# Altium integrated library Lattice FPGA XP.IntLib: 280 symbols (part 23 of 45)
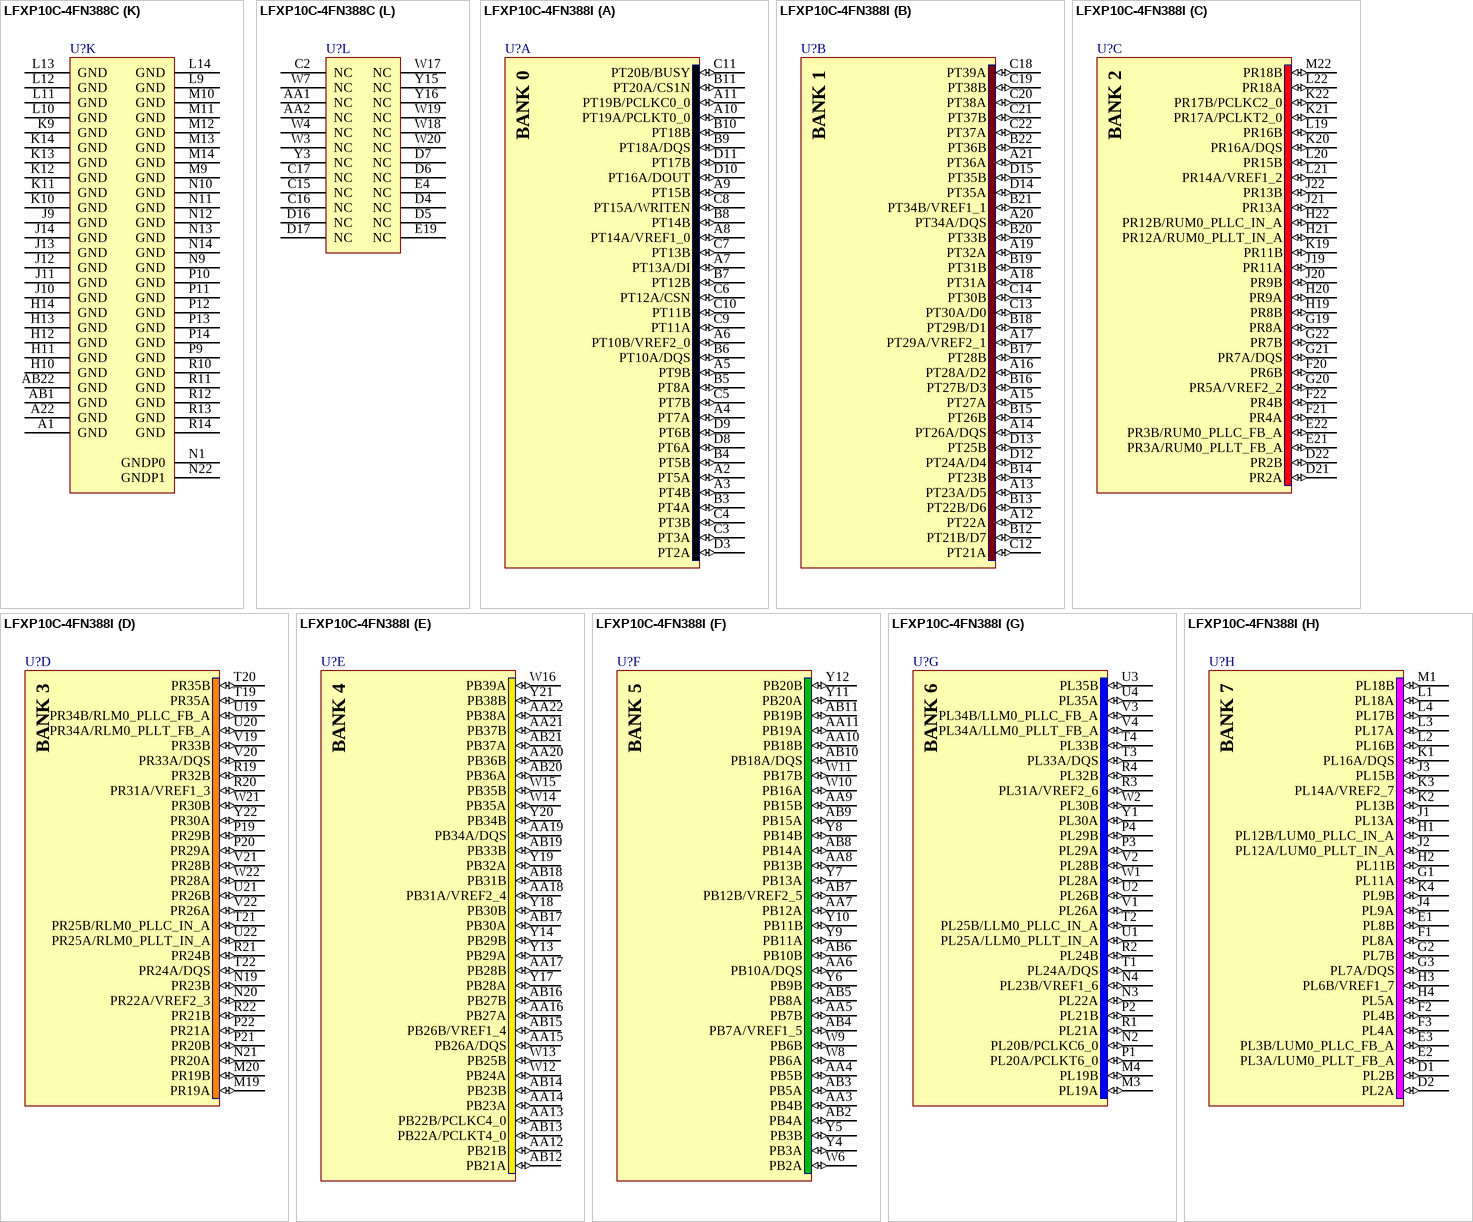
[diagram p263: symbols LFXP10C-4FN388C to LFXP10C-4FN388I]

## LFXP10C-4FN388C
designator U?
XP 1.8/2.5/3.3V FPGA, 244 I/Os, 10K LUTs, 388-Pin fpBGA, Speed Grade 4, Commerical Grade, Pb-Free; Published: 6-Oct-2005; LatestRevisionDate: 13-Apr-2006; LatestRevisionNote: IPC-7351 Footprint Added.; DatasheetVersion: ver05.1, Nov-2007; PackageVersion: ver01.8, Dec-2008; PackageReference: fpBGA388; Publisher: Altium Limited; PackageDescription: 388-Ball Fine Pitch Ball Grid Array (fpBGA388); ComponentLink1Description: Manufacturer Link; ComponentLink1URL: http://www.latticesemi.com/products/fpga/xp/index.cfm; ComponentLink2Description: Datasheet; ComponentLink2URL: http://www.latticesemi.com/lit/docs/datasheets/fpga/DS1001.pdf; ComponentLink3Description: Packaging Specification; ComponentLink3URL: http://www.latticesemi.com/lit/docs/package/pkg.pdf
footprint fpBGA388 (BGA, 388-Leads, Body 23x23mm, Pitch 1mm)
3D model XP10C-fpBGA-388 (388-Ball Fine Pitch Ball Grid Array (fpBGA388))
part A pins: A2 PT5A (io), A3 PT4B (io), A4 PT7A (io), A5 PT9B (io), A6 PT10B/VREF2_0 (io), A7 PT13A/DI (io), A8 PT14A/VREF1_0 (io), A9 PT15B (io), A10 PT19A/PCLKT0_0 (io), A11 PT19B/PCLKC0_0 (io), B3 PT4A (io), B4 PT5B (io), B5 PT8A (io), B6 PT10A/DQS (io), B7 PT12B (io), B8 PT14B (io), B9 PT18A/DQS (io), B10 PT18B (io), B11 PT20A/CS1N (io), C3 PT3A (io), C4 PT3B (io), C5 PT7B (io), C6 PT12A/CSN (io), C7 PT13B (io), C8 PT15A/WRITEN (io), C9 PT11A (io), C10 PT11B (io), C11 PT20B/BUSY (io), D3 PT2A (io), D8 PT6A (io), D9 PT6B (io), D10 PT16A/DOUT (io), D11 PT17B (io)
part B pins: A12 PT22A (io), A13 PT23A/D5 (io), A14 PT26A/DQS (io), A15 PT27A (io), A16 PT28A/D2 (io), A17 PT29A/VREF2_1 (io), A18 PT31A (io), A19 PT32A (io), A20 PT34A/DQS (io), A21 PT36A (io), B12 PT21B/D7 (io), B13 PT22B/D6 (io), B14 PT23B (io), B15 PT26B (io), B16 PT27B/D3 (io), B17 PT28B (io), B18 PT29B/D1 (io), B19 PT31B (io), B20 PT33B (io), B21 PT34B/VREF1_1 (io), B22 PT36B (io), C12 PT21A (io), C13 PT30A/D0 (io), C14 PT30B (io), C18 PT39A (io), C19 PT38B (io), C20 PT38A (io), C21 PT37B (io), C22 PT37A (io), D12 PT24A/D4 (io), D13 PT25B (io), D14 PT35A (io), D15 PT35B (io)
part C pins: D21 PR2A (io), D22 PR2B (io), E21 PR3A/RUM0_PLLT_FB_A (io), E22 PR3B/RUM0_PLLC_FB_A (io), F20 PR6B (io), F21 PR4A (io), F22 PR4B (io), G19 PR8A (io), G20 PR5A/VREF2_2 (io), G21 PR7A/DQS (io), G22 PR7B (io), H19 PR8B (io), H20 PR9A (io), H21 PR12A/RUM0_PLLT_IN_A (io), H22 PR12B/RUM0_PLLC_IN_A (io), J19 PR11A (io), J20 PR9B (io), J21 PR13A (io), J22 PR13B (io), K19 PR11B (io), K20 PR16A/DQS (io), K21 PR17A/PCLKT2_0 (io), K22 PR17B/PCLKC2_0 (io), L19 PR16B (io), L20 PR15B (io), L21 PR14A/VREF1_2 (io), L22 PR18A (io), M22 PR18B (io)
part D pins: M19 PR19A (io), M20 PR19B (io), N19 PR23B (io), N20 PR22A/VREF2_3 (io), N21 PR20A (io), P19 PR29B (io), P20 PR29A (io), P21 PR20B (io), P22 PR21A (io), R19 PR32B (io), R20 PR31A/VREF1_3 (io), R21 PR24B (io), R22 PR21B (io), T19 PR35A (io), T20 PR35B (io), T21 PR25B/RLM0_PLLC_IN_A (io), T22 PR24A/DQS (io), U19 PR34B/RLM0_PLLC_FB_A (io), U20 PR34A/RLM0_PLLT_FB_A (io), U21 PR26B (io), U22 PR25A/RLM0_PLLT_IN_A (io), V19 PR33B (io), V20 PR33A/DQS (io), V21 PR28B (io), V22 PR26A (io), W21 PR30B (io), W22 PR28A (io), Y22 PR30A (io)
part E pins: AA12 PB21B (io), AA13 PB22B/PCLKC4_0 (io), AA14 PB23A (io), AA15 PB26A/DQS (io), AA16 PB27A (io), AA17 PB28B (io), AA18 PB31A/VREF2_4 (io), AA19 PB34A/DQS (io), AA20 PB36B (io), AA21 PB37B (io), AA22 PB38A (io), AB12 PB21A (io), AB13 PB22A/PCLKT4_0 (io), AB14 PB23B (io), AB15 PB26B/VREF1_4 (io), AB16 PB27B (io), AB17 PB30A (io), AB18 PB31B (io), AB19 PB33B (io), AB20 PB36A (io), AB21 PB37A (io), W12 PB24A (io), W13 PB25B (io), W14 PB35A (io), W15 PB35B (io), W16 PB39A (io), Y13 PB29A (io), Y14 PB29B (io), Y17 PB28A (io), Y18 PB30B (io), Y19 PB32A (io), Y20 PB34B (io), Y21 PB38B (io)
part F pins: AA3 PB4B (io), AA4 PB5B (io), AA5 PB7B (io), AA6 PB10A/DQS (io), AA7 PB12A (io), AA8 PB13B (io), AA9 PB15B (io), AA10 PB18B (io), AA11 PB19A (io), AB2 PB4A (io), AB3 PB5A (io), AB4 PB7A/VREF1_5 (io), AB5 PB8A (io), AB6 PB10B (io), AB7 PB12B/VREF2_5 (io), AB8 PB14A (io), AB9 PB15A (io), AB10 PB18A/DQS (io), AB11 PB19B (io), W6 PB2A (io), W8 PB6A (io), W9 PB6B (io), W10 PB16A (io), W11 PB17B (io), Y4 PB3A (io), Y5 PB3B (io), Y6 PB9B (io), Y7 PB13A (io), Y8 PB14B (io), Y9 PB11A (io), Y10 PB11B (io), Y11 PB20A (io), Y12 PB20B (io)
part G pins: M3 PL19A (io), M4 PL19B (io), N2 PL20B/PCLKC6_0 (io), N3 PL22A (io), N4 PL23B/VREF1_6 (io), P1 PL20A/PCLKT6_0 (io), P2 PL21B (io), P3 PL29A (io), P4 PL29B (io), R1 PL21A (io), R2 PL24B (io), R3 PL31A/VREF2_6 (io), R4 PL32B (io), T1 PL24A/DQS (io), T2 PL25B/LLM0_PLLC_IN_A (io), T3 PL33A/DQS (io), T4 PL33B (io), U1 PL25A/LLM0_PLLT_IN_A (io), U2 PL26B (io), U3 PL35B (io), U4 PL35A (io), V1 PL26A (io), V2 PL28B (io), V3 PL34B/LLM0_PLLC_FB_A (io), V4 PL34A/LLM0_PLLT_FB_A (io), W1 PL28A (io), W2 PL30B (io), Y1 PL30A (io)
part H pins: D1 PL2B (io), D2 PL2A (io), E1 PL8B (io), E2 PL3A/LUM0_PLLT_FB_A (io), E3 PL3B/LUM0_PLLC_FB_A (io), F1 PL8A (io), F2 PL4B (io), F3 PL4A (io), G1 PL11A (io), G2 PL7B (io), G3 PL7A/DQS (io), H1 PL12B/LUM0_PLLC_IN_A (io), H2 PL11B (io), H3 PL6B/VREF1_7 (io), H4 PL5A (io), J1 PL13A (io), J2 PL12A/LUM0_PLLT_IN_A (io), J3 PL15B (io), J4 PL9A (io), K1 PL16A/DQS (io), K2 PL13B (io), K3 PL14A/VREF2_7 (io), K4 PL9B (io), L1 PL18A (io), L2 PL16B (io), L3 PL17A (io), L4 PL17B (io), M1 PL18B (io)
part I pins: B1 DONE (io), B2 CFG1 (in), C1 CFG0 (in), D18 TCK (in), D19 TMS (in), D20 TDI (in), F4 PROGRAMN (in), F19 TDO (out), G4 CCLK (io), W5 SLEEPN (in), Y2 INITN (io)
part J pins: E20 VCCJ (power), G7 VCCAUX (power), G8 VCCIO0 (power), G9 VCCIO0 (power), G10 VCCIO0 (power), G11 VCCIO0 (power), G12 VCCIO1 (power), G13 VCCIO1 (power), G14 VCCIO1 (power), G15 VCCIO1 (power), G16 VCCAUX (power), H7 VCCIO7 (power), H8 VCCIO0 (power), H9 VCC (power), H15 VCCIO1 (power), H16 VCCIO2 (power), J7 VCCIO7 (power), J8 VCC (power), J15 VCC (power), J16 VCCIO2 (power), K7 VCCIO7 (power), K8 VCC (power), K15 VCC (power), K16 VCCIO2 (power), L7 VCCIO7 (power), L8 VCC (power), L15 VCC (power), L16 VCCIO2 (power), M2 VCCP0 (power), M7 VCCIO6 (power), M8 VCC (power), M15 VCC (power), M16 VCCIO3 (power), M21 VCCP1 (power), N7 VCCIO6 (power), N8 VCC (power), N15 VCC (power), N16 VCCIO3 (power), P7 VCCIO6 (power), P8 VCC (power), P15 VCC (power), P16 VCCIO3 (power), R7 VCCIO6 (power), R8 VCCIO5 (power), R9 VCC (power), R15 VCCIO4 (power), R16 VCCIO3 (power), T7 VCCAUX (power), T8 VCCIO5 (power), T9 VCCIO5 (power), T10 VCCIO5 (power), T11 VCCIO5 (power), T12 VCCIO4 (power), T13 VCCIO4 (power), T14 VCCIO4 (power), T15 VCCIO4 (power), T16 VCCAUX (power)
part K pins: A1 GND (power), A22 GND (power), AB1 GND (power), AB22 GND (power), H10 GND (power), H11 GND (power), H12 GND (power), H13 GND (power), H14 GND (power), J9 GND (power), J10 GND (power), J11 GND (power), J12 GND (power), J13 GND (power), J14 GND (power), K9 GND (power), K10 GND (power), K11 GND (power), K12 GND (power), K13 GND (power), K14 GND (power), L9 GND (power), L10 GND (power), L11 GND (power), L12 GND (power), L13 GND (power), L14 GND (power), M9 GND (power), M10 GND (power), M11 GND (power), M12 GND (power), M13 GND (power), M14 GND (power), N1 GNDP0 (power), N9 GND (power), N10 GND (power), N11 GND (power), N12 GND (power), N13 GND (power), N14 GND (power), N22 GNDP1 (power), P9 GND (power), P10 GND (power), P11 GND (power), P12 GND (power), P13 GND (power), P14 GND (power), R10 GND (power), R11 GND (power), R12 GND (power), R13 GND (power), R14 GND (power)
part L pins: AA1 NC, AA2 NC, C2 NC, C15 NC, C16 NC, C17 NC, D4 NC, D5 NC, D6 NC, D7 NC, D16 NC, D17 NC, E4 NC, E19 NC, W3 NC, W4 NC, W7 NC, W17 NC, W18 NC, W19 NC, W20 NC, Y3 NC, Y15 NC, Y16 NC
part A text: BANK 0
part B text: BANK 1
part C text: BANK 2
part D text: BANK 3
part E text: BANK 4
part F text: BANK 5
part G text: BANK 6
part H text: BANK 7

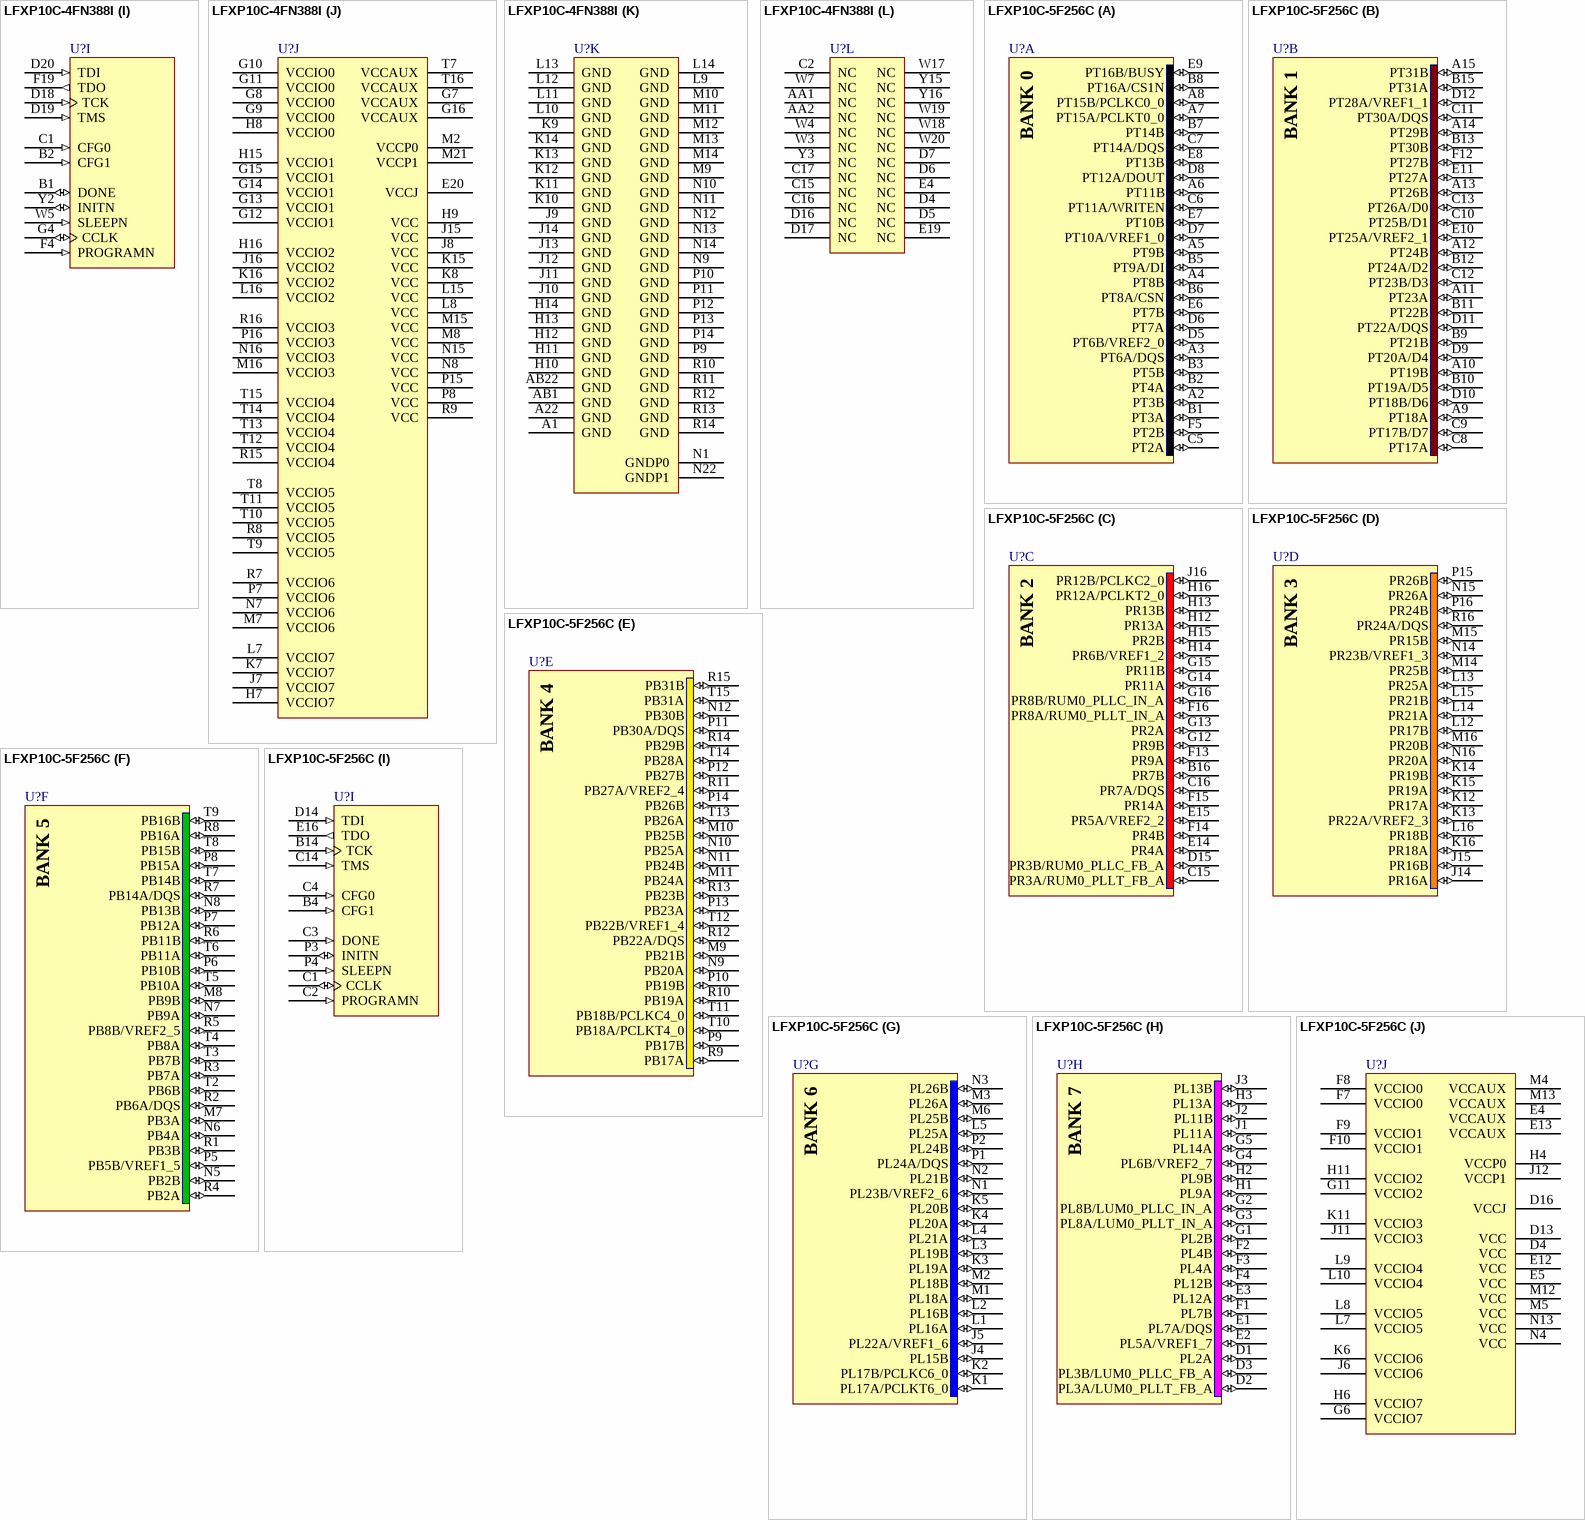
[diagram p88: symbols LFXP10C-4FN388I to LFXP10C-5F256C]

## LFXP10C-4FN388I
designator U?
XP 1.8/2.5/3.3V FPGA, 244 I/Os, 10K LUTs, 388-Pin fpBGA, Speed Grade 4, Industrial Grade, Pb-Free; Published: 6-Oct-2005; LatestRevisionDate: 13-Apr-2006; LatestRevisionNote: IPC-7351 Footprint Added.; DatasheetVersion: ver05.1, Nov-2007; PackageVersion: ver01.8, Dec-2008; PackageReference: fpBGA388; Publisher: Altium Limited; PackageDescription: 388-Ball Fine Pitch Ball Grid Array (fpBGA388); ComponentLink1Description: Manufacturer Link; ComponentLink1URL: http://www.latticesemi.com/products/fpga/xp/index.cfm; ComponentLink2Description: Datasheet; ComponentLink2URL: http://www.latticesemi.com/lit/docs/datasheets/fpga/DS1001.pdf; ComponentLink3Description: Packaging Specification; ComponentLink3URL: http://www.latticesemi.com/lit/docs/package/pkg.pdf
footprint fpBGA388 (BGA, 388-Leads, Body 23x23mm, Pitch 1mm)
3D model XP10C-fpBGA-388 (388-Ball Fine Pitch Ball Grid Array (fpBGA388))
part A pins: A2 PT5A (io), A3 PT4B (io), A4 PT7A (io), A5 PT9B (io), A6 PT10B/VREF2_0 (io), A7 PT13A/DI (io), A8 PT14A/VREF1_0 (io), A9 PT15B (io), A10 PT19A/PCLKT0_0 (io), A11 PT19B/PCLKC0_0 (io), B3 PT4A (io), B4 PT5B (io), B5 PT8A (io), B6 PT10A/DQS (io), B7 PT12B (io), B8 PT14B (io), B9 PT18A/DQS (io), B10 PT18B (io), B11 PT20A/CS1N (io), C3 PT3A (io), C4 PT3B (io), C5 PT7B (io), C6 PT12A/CSN (io), C7 PT13B (io), C8 PT15A/WRITEN (io), C9 PT11A (io), C10 PT11B (io), C11 PT20B/BUSY (io), D3 PT2A (io), D8 PT6A (io), D9 PT6B (io), D10 PT16A/DOUT (io), D11 PT17B (io)
part B pins: A12 PT22A (io), A13 PT23A/D5 (io), A14 PT26A/DQS (io), A15 PT27A (io), A16 PT28A/D2 (io), A17 PT29A/VREF2_1 (io), A18 PT31A (io), A19 PT32A (io), A20 PT34A/DQS (io), A21 PT36A (io), B12 PT21B/D7 (io), B13 PT22B/D6 (io), B14 PT23B (io), B15 PT26B (io), B16 PT27B/D3 (io), B17 PT28B (io), B18 PT29B/D1 (io), B19 PT31B (io), B20 PT33B (io), B21 PT34B/VREF1_1 (io), B22 PT36B (io), C12 PT21A (io), C13 PT30A/D0 (io), C14 PT30B (io), C18 PT39A (io), C19 PT38B (io), C20 PT38A (io), C21 PT37B (io), C22 PT37A (io), D12 PT24A/D4 (io), D13 PT25B (io), D14 PT35A (io), D15 PT35B (io)
part C pins: D21 PR2A (io), D22 PR2B (io), E21 PR3A/RUM0_PLLT_FB_A (io), E22 PR3B/RUM0_PLLC_FB_A (io), F20 PR6B (io), F21 PR4A (io), F22 PR4B (io), G19 PR8A (io), G20 PR5A/VREF2_2 (io), G21 PR7A/DQS (io), G22 PR7B (io), H19 PR8B (io), H20 PR9A (io), H21 PR12A/RUM0_PLLT_IN_A (io), H22 PR12B/RUM0_PLLC_IN_A (io), J19 PR11A (io), J20 PR9B (io), J21 PR13A (io), J22 PR13B (io), K19 PR11B (io), K20 PR16A/DQS (io), K21 PR17A/PCLKT2_0 (io), K22 PR17B/PCLKC2_0 (io), L19 PR16B (io), L20 PR15B (io), L21 PR14A/VREF1_2 (io), L22 PR18A (io), M22 PR18B (io)
part D pins: M19 PR19A (io), M20 PR19B (io), N19 PR23B (io), N20 PR22A/VREF2_3 (io), N21 PR20A (io), P19 PR29B (io), P20 PR29A (io), P21 PR20B (io), P22 PR21A (io), R19 PR32B (io), R20 PR31A/VREF1_3 (io), R21 PR24B (io), R22 PR21B (io), T19 PR35A (io), T20 PR35B (io), T21 PR25B/RLM0_PLLC_IN_A (io), T22 PR24A/DQS (io), U19 PR34B/RLM0_PLLC_FB_A (io), U20 PR34A/RLM0_PLLT_FB_A (io), U21 PR26B (io), U22 PR25A/RLM0_PLLT_IN_A (io), V19 PR33B (io), V20 PR33A/DQS (io), V21 PR28B (io), V22 PR26A (io), W21 PR30B (io), W22 PR28A (io), Y22 PR30A (io)
part E pins: AA12 PB21B (io), AA13 PB22B/PCLKC4_0 (io), AA14 PB23A (io), AA15 PB26A/DQS (io), AA16 PB27A (io), AA17 PB28B (io), AA18 PB31A/VREF2_4 (io), AA19 PB34A/DQS (io), AA20 PB36B (io), AA21 PB37B (io), AA22 PB38A (io), AB12 PB21A (io), AB13 PB22A/PCLKT4_0 (io), AB14 PB23B (io), AB15 PB26B/VREF1_4 (io), AB16 PB27B (io), AB17 PB30A (io), AB18 PB31B (io), AB19 PB33B (io), AB20 PB36A (io), AB21 PB37A (io), W12 PB24A (io), W13 PB25B (io), W14 PB35A (io), W15 PB35B (io), W16 PB39A (io), Y13 PB29A (io), Y14 PB29B (io), Y17 PB28A (io), Y18 PB30B (io), Y19 PB32A (io), Y20 PB34B (io), Y21 PB38B (io)
part F pins: AA3 PB4B (io), AA4 PB5B (io), AA5 PB7B (io), AA6 PB10A/DQS (io), AA7 PB12A (io), AA8 PB13B (io), AA9 PB15B (io), AA10 PB18B (io), AA11 PB19A (io), AB2 PB4A (io), AB3 PB5A (io), AB4 PB7A/VREF1_5 (io), AB5 PB8A (io), AB6 PB10B (io), AB7 PB12B/VREF2_5 (io), AB8 PB14A (io), AB9 PB15A (io), AB10 PB18A/DQS (io), AB11 PB19B (io), W6 PB2A (io), W8 PB6A (io), W9 PB6B (io), W10 PB16A (io), W11 PB17B (io), Y4 PB3A (io), Y5 PB3B (io), Y6 PB9B (io), Y7 PB13A (io), Y8 PB14B (io), Y9 PB11A (io), Y10 PB11B (io), Y11 PB20A (io), Y12 PB20B (io)
part G pins: M3 PL19A (io), M4 PL19B (io), N2 PL20B/PCLKC6_0 (io), N3 PL22A (io), N4 PL23B/VREF1_6 (io), P1 PL20A/PCLKT6_0 (io), P2 PL21B (io), P3 PL29A (io), P4 PL29B (io), R1 PL21A (io), R2 PL24B (io), R3 PL31A/VREF2_6 (io), R4 PL32B (io), T1 PL24A/DQS (io), T2 PL25B/LLM0_PLLC_IN_A (io), T3 PL33A/DQS (io), T4 PL33B (io), U1 PL25A/LLM0_PLLT_IN_A (io), U2 PL26B (io), U3 PL35B (io), U4 PL35A (io), V1 PL26A (io), V2 PL28B (io), V3 PL34B/LLM0_PLLC_FB_A (io), V4 PL34A/LLM0_PLLT_FB_A (io), W1 PL28A (io), W2 PL30B (io), Y1 PL30A (io)
part H pins: D1 PL2B (io), D2 PL2A (io), E1 PL8B (io), E2 PL3A/LUM0_PLLT_FB_A (io), E3 PL3B/LUM0_PLLC_FB_A (io), F1 PL8A (io), F2 PL4B (io), F3 PL4A (io), G1 PL11A (io), G2 PL7B (io), G3 PL7A/DQS (io), H1 PL12B/LUM0_PLLC_IN_A (io), H2 PL11B (io), H3 PL6B/VREF1_7 (io), H4 PL5A (io), J1 PL13A (io), J2 PL12A/LUM0_PLLT_IN_A (io), J3 PL15B (io), J4 PL9A (io), K1 PL16A/DQS (io), K2 PL13B (io), K3 PL14A/VREF2_7 (io), K4 PL9B (io), L1 PL18A (io), L2 PL16B (io), L3 PL17A (io), L4 PL17B (io), M1 PL18B (io)
part I pins: B1 DONE (io), B2 CFG1 (in), C1 CFG0 (in), D18 TCK (in), D19 TMS (in), D20 TDI (in), F4 PROGRAMN (in), F19 TDO (out), G4 CCLK (io), W5 SLEEPN (in), Y2 INITN (io)
part J pins: E20 VCCJ (power), G7 VCCAUX (power), G8 VCCIO0 (power), G9 VCCIO0 (power), G10 VCCIO0 (power), G11 VCCIO0 (power), G12 VCCIO1 (power), G13 VCCIO1 (power), G14 VCCIO1 (power), G15 VCCIO1 (power), G16 VCCAUX (power), H7 VCCIO7 (power), H8 VCCIO0 (power), H9 VCC (power), H15 VCCIO1 (power), H16 VCCIO2 (power), J7 VCCIO7 (power), J8 VCC (power), J15 VCC (power), J16 VCCIO2 (power), K7 VCCIO7 (power), K8 VCC (power), K15 VCC (power), K16 VCCIO2 (power), L7 VCCIO7 (power), L8 VCC (power), L15 VCC (power), L16 VCCIO2 (power), M2 VCCP0 (power), M7 VCCIO6 (power), M8 VCC (power), M15 VCC (power), M16 VCCIO3 (power), M21 VCCP1 (power), N7 VCCIO6 (power), N8 VCC (power), N15 VCC (power), N16 VCCIO3 (power), P7 VCCIO6 (power), P8 VCC (power), P15 VCC (power), P16 VCCIO3 (power), R7 VCCIO6 (power), R8 VCCIO5 (power), R9 VCC (power), R15 VCCIO4 (power), R16 VCCIO3 (power), T7 VCCAUX (power), T8 VCCIO5 (power), T9 VCCIO5 (power), T10 VCCIO5 (power), T11 VCCIO5 (power), T12 VCCIO4 (power), T13 VCCIO4 (power), T14 VCCIO4 (power), T15 VCCIO4 (power), T16 VCCAUX (power)
part K pins: A1 GND (power), A22 GND (power), AB1 GND (power), AB22 GND (power), H10 GND (power), H11 GND (power), H12 GND (power), H13 GND (power), H14 GND (power), J9 GND (power), J10 GND (power), J11 GND (power), J12 GND (power), J13 GND (power), J14 GND (power), K9 GND (power), K10 GND (power), K11 GND (power), K12 GND (power), K13 GND (power), K14 GND (power), L9 GND (power), L10 GND (power), L11 GND (power), L12 GND (power), L13 GND (power), L14 GND (power), M9 GND (power), M10 GND (power), M11 GND (power), M12 GND (power), M13 GND (power), M14 GND (power), N1 GNDP0 (power), N9 GND (power), N10 GND (power), N11 GND (power), N12 GND (power), N13 GND (power), N14 GND (power), N22 GNDP1 (power), P9 GND (power), P10 GND (power), P11 GND (power), P12 GND (power), P13 GND (power), P14 GND (power), R10 GND (power), R11 GND (power), R12 GND (power), R13 GND (power), R14 GND (power)
part L pins: AA1 NC, AA2 NC, C2 NC, C15 NC, C16 NC, C17 NC, D4 NC, D5 NC, D6 NC, D7 NC, D16 NC, D17 NC, E4 NC, E19 NC, W3 NC, W4 NC, W7 NC, W17 NC, W18 NC, W19 NC, W20 NC, Y3 NC, Y15 NC, Y16 NC
part A text: BANK 0
part B text: BANK 1
part C text: BANK 2
part D text: BANK 3
part E text: BANK 4
part F text: BANK 5
part G text: BANK 6
part H text: BANK 7

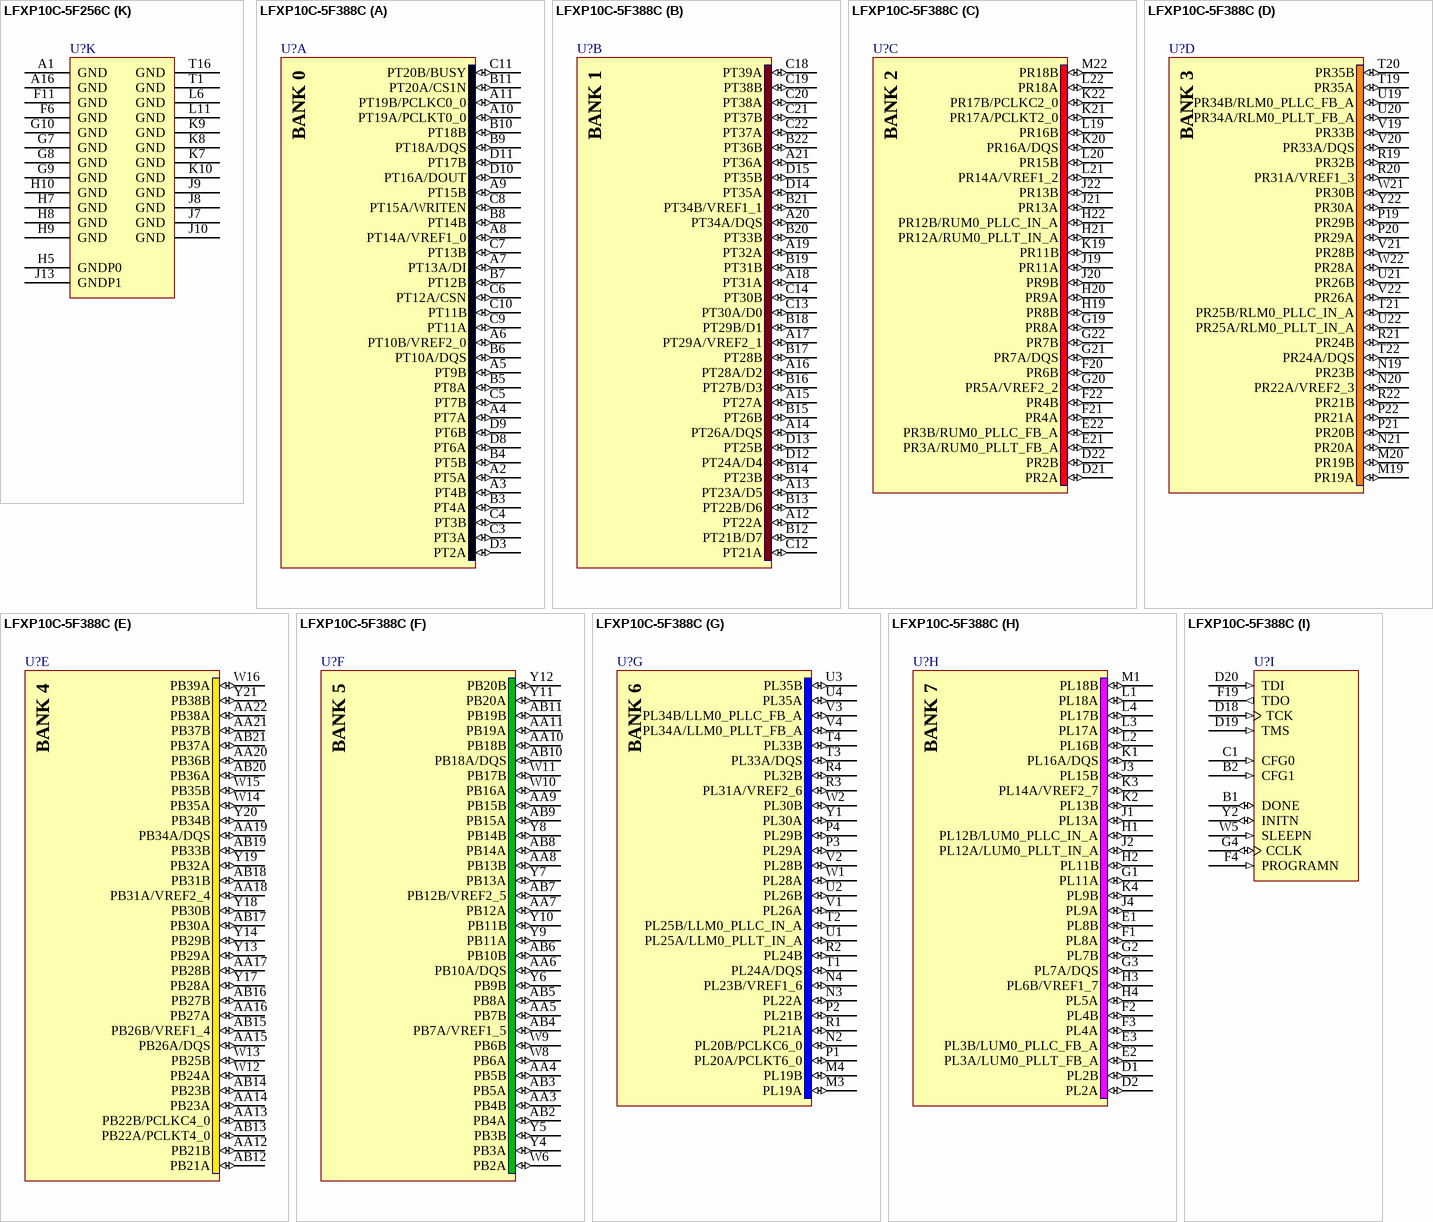
[diagram p89: symbols LFXP10C-5F256C to LFXP10C-5F388C]

## LFXP10C-5F256C
designator U?
XP 1.8/2.5/3.3V FPGA, 188 I/Os, 10K LUTs, 256-Pin fpBGA, Speed Grade 5, Commerical Grade; Published: 6-Oct-2005; LatestRevisionDate: 13-Apr-2006; LatestRevisionNote: IPC-7351 Footprint Added.; DatasheetVersion: ver05.1, Nov-2007; PackageVersion: ver01.8, Dec-2008; PackageReference: fpBGA256; Publisher: Altium Limited; PackageDescription: 256-Ball Fine Pitch Ball Grid Array (fpBGA256); Code_IPC: BGA100P16X16-256; ComponentLink1Description: Manufacturer Link; ComponentLink1URL: http://www.latticesemi.com/products/fpga/xp/index.cfm; ComponentLink2Description: Datasheet; ComponentLink2URL: http://www.latticesemi.com/lit/docs/datasheets/fpga/DS1001.pdf; ComponentLink3Description: Packaging Specification; ComponentLink3URL: http://www.latticesemi.com/lit/docs/package/pkg.pdf
footprint fpBGA256 (BGA, 256-Leads, Body 17x17mm, Pitch 1mm)
3D model XP10C-fpBGA-256 (256-Ball Fine Pitch Ball Grid Array (fpBGA256))
part A pins: A2 PT3B (io), A3 PT6A/DQS (io), A4 PT8B (io), A5 PT9B (io), A6 PT11B (io), A7 PT15A/PCLKT0_0 (io), A8 PT15B/PCLKC0_0 (io), B1 PT3A (io), B2 PT4A (io), B3 PT5B (io), B5 PT9A/DI (io), B6 PT8A/CSN (io), B7 PT14B (io), B8 PT16A/CS1N (io), C5 PT2A (io), C6 PT11A/WRITEN (io), C7 PT14A/DQS (io), D5 PT6B/VREF2_0 (io), D6 PT7A (io), D7 PT10A/VREF1_0 (io), D8 PT12A/DOUT (io), E6 PT7B (io), E7 PT10B (io), E8 PT13B (io), E9 PT16B/BUSY (io), F5 PT2B (io)
part B pins: A9 PT18A (io), A10 PT19B (io), A11 PT23A (io), A12 PT24B (io), A13 PT26B (io), A14 PT29B (io), A15 PT31B (io), B9 PT21B (io), B10 PT19A/D5 (io), B11 PT22B (io), B12 PT24A/D2 (io), B13 PT30B (io), B15 PT31A (io), C8 PT17A (io), C9 PT17B/D7 (io), C10 PT25B/D1 (io), C11 PT30A/DQS (io), C12 PT23B/D3 (io), C13 PT26A/D0 (io), D9 PT20A/D4 (io), D10 PT18B/D6 (io), D11 PT22A/DQS (io), D12 PT28A/VREF1_1 (io), E10 PT25A/VREF2_1 (io), E11 PT27A (io), F12 PT27B (io)
part C pins: B16 PR7B (io), C15 PR3A/RUM0_PLLT_FB_A (io), C16 PR7A/DQS (io), D15 PR3B/RUM0_PLLC_FB_A (io), E14 PR4A (io), E15 PR5A/VREF2_2 (io), F13 PR9A (io), F14 PR4B (io), F15 PR14A (io), F16 PR8A/RUM0_PLLT_IN_A (io), G12 PR9B (io), G13 PR2A (io), G14 PR11A (io), G15 PR11B (io), G16 PR8B/RUM0_PLLC_IN_A (io), H12 PR13A (io), H13 PR13B (io), H14 PR6B/VREF1_2 (io), H15 PR2B (io), H16 PR12A/PCLKT2_0 (io), J16 PR12B/PCLKC2_0 (io)
part D pins: J14 PR16A (io), J15 PR16B (io), K12 PR17A (io), K13 PR22A/VREF2_3 (io), K14 PR19B (io), K15 PR19A (io), K16 PR18A (io), L12 PR17B (io), L13 PR25A (io), L14 PR21A (io), L15 PR21B (io), L16 PR18B (io), M14 PR25B (io), M15 PR15B (io), M16 PR20B (io), N14 PR23B/VREF1_3 (io), N15 PR26A (io), N16 PR20A (io), P15 PR26B (io), P16 PR24B (io), R16 PR24A/DQS (io)
part E pins: M9 PB21B (io), M10 PB25B (io), M11 PB24A (io), N9 PB20A (io), N10 PB25A (io), N11 PB24B (io), N12 PB30B (io), P9 PB17B (io), P10 PB19B (io), P11 PB30A/DQS (io), P12 PB27B (io), P13 PB23A (io), P14 PB26B (io), R9 PB17A (io), R10 PB19A (io), R11 PB27A/VREF2_4 (io), R12 PB22A/DQS (io), R13 PB23B (io), R14 PB29B (io), R15 PB31B (io), T10 PB18A/PCLKT4_0 (io), T11 PB18B/PCLKC4_0 (io), T12 PB22B/VREF1_4 (io), T13 PB26A (io), T14 PB28A (io), T15 PB31A (io)
part F pins: M7 PB3A (io), M8 PB9B (io), N5 PB2B (io), N6 PB4A (io), N7 PB9A (io), N8 PB13B (io), P5 PB5B/VREF1_5 (io), P6 PB10B (io), P7 PB12A (io), P8 PB15A (io), R1 PB3B (io), R2 PB6A/DQS (io), R3 PB7A (io), R4 PB2A (io), R5 PB8B/VREF2_5 (io), R6 PB11B (io), R7 PB14A/DQS (io), R8 PB16A (io), T2 PB6B (io), T3 PB7B (io), T4 PB8A (io), T5 PB10A (io), T6 PB11A (io), T7 PB14B (io), T8 PB15B (io), T9 PB16B (io)
part G pins: J4 PL15B (io), J5 PL22A/VREF1_6 (io), K1 PL17A/PCLKT6_0 (io), K2 PL17B/PCLKC6_0 (io), K3 PL19A (io), K4 PL20A (io), K5 PL20B (io), L1 PL16A (io), L2 PL16B (io), L3 PL19B (io), L4 PL21A (io), L5 PL25A (io), M1 PL18A (io), M2 PL18B (io), M3 PL26A (io), M6 PL25B (io), N1 PL23B/VREF2_6 (io), N2 PL21B (io), N3 PL26B (io), P1 PL24A/DQS (io), P2 PL24B (io)
part H pins: D1 PL2A (io), D2 PL3A/LUM0_PLLT_FB_A (io), D3 PL3B/LUM0_PLLC_FB_A (io), E1 PL7A/DQS (io), E2 PL5A/VREF1_7 (io), E3 PL12A (io), F1 PL7B (io), F2 PL4B (io), F3 PL4A (io), F4 PL12B (io), G1 PL2B (io), G2 PL8B/LUM0_PLLC_IN_A (io), G3 PL8A/LUM0_PLLT_IN_A (io), G4 PL6B/VREF2_7 (io), G5 PL14A (io), H1 PL9A (io), H2 PL9B (io), H3 PL13A (io), J1 PL11A (io), J2 PL11B (io), J3 PL13B (io)
part I pins: B4 CFG1 (in), B14 TCK (in), C1 CCLK (io), C2 PROGRAMN (in), C3 DONE (in), C4 CFG0 (in), C14 TMS (in), D14 TDI (in), E16 TDO (out), P3 INITN (io), P4 SLEEPN (in)
part J pins: D4 VCC (power), D13 VCC (power), D16 VCCJ (power), E4 VCCAUX (power), E5 VCC (power), E12 VCC (power), E13 VCCAUX (power), F7 VCCIO0 (power), F8 VCCIO0 (power), F9 VCCIO1 (power), F10 VCCIO1 (power), G6 VCCIO7 (power), G11 VCCIO2 (power), H4 VCCP0 (power), H6 VCCIO7 (power), H11 VCCIO2 (power), J6 VCCIO6 (power), J11 VCCIO3 (power), J12 VCCP1 (power), K6 VCCIO6 (power), K11 VCCIO3 (power), L7 VCCIO5 (power), L8 VCCIO5 (power), L9 VCCIO4 (power), L10 VCCIO4 (power), M4 VCCAUX (power), M5 VCC (power), M12 VCC (power), M13 VCCAUX (power), N4 VCC (power), N13 VCC (power)
part K pins: A1 GND (power), A16 GND (power), F6 GND (power), F11 GND (power), G7 GND (power), G8 GND (power), G9 GND (power), G10 GND (power), H5 GNDP0 (power), H7 GND (power), H8 GND (power), H9 GND (power), H10 GND (power), J7 GND (power), J8 GND (power), J9 GND (power), J10 GND (power), J13 GNDP1 (power), K7 GND (power), K8 GND (power), K9 GND (power), K10 GND (power), L6 GND (power), L11 GND (power), T1 GND (power), T16 GND (power)
part A text: BANK 0
part B text: BANK 1
part C text: BANK 2
part D text: BANK 3
part E text: BANK 4
part F text: BANK 5
part G text: BANK 6
part H text: BANK 7

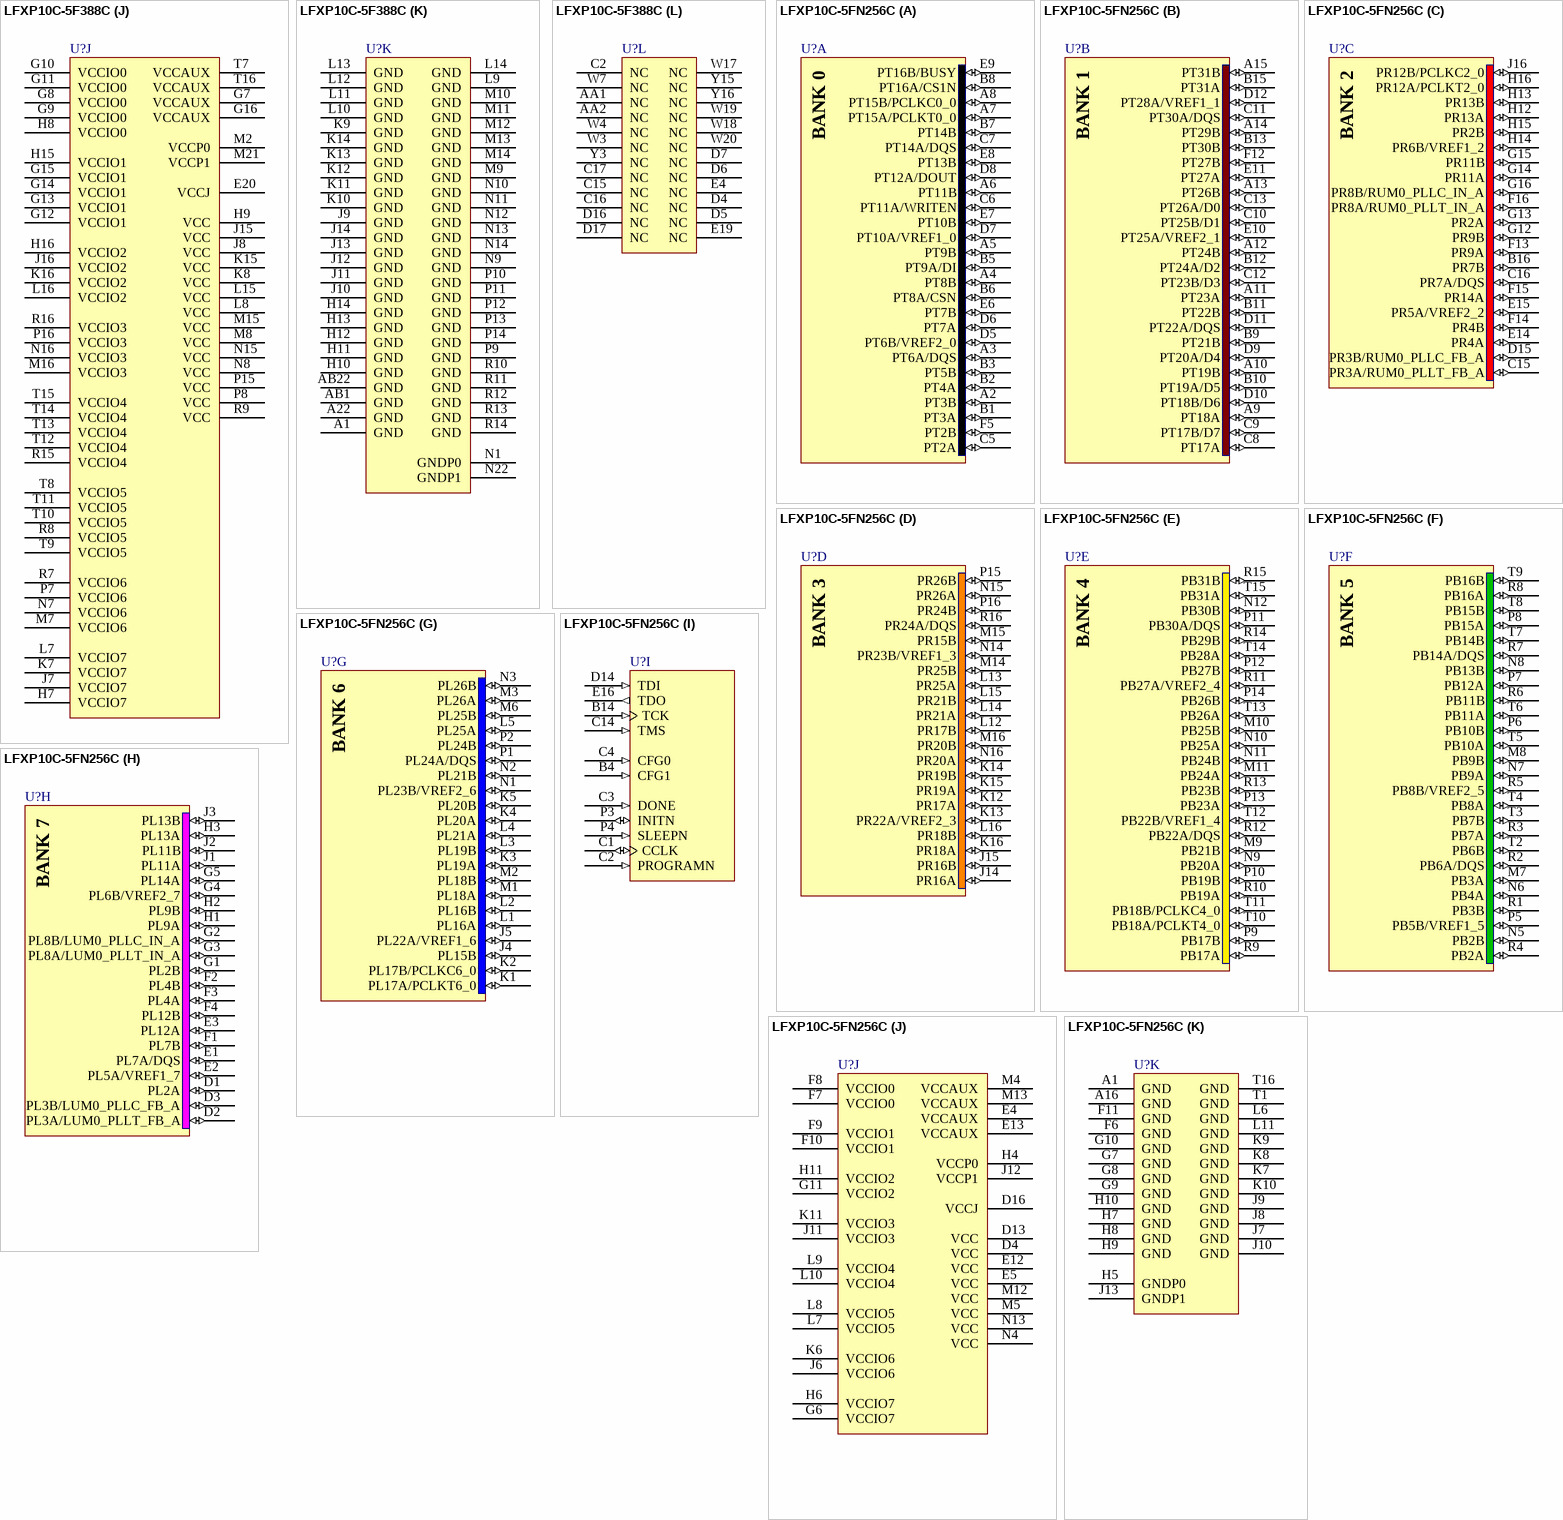
[diagram p90: symbols LFXP10C-5F388C to LFXP10C-5FN256C]

## LFXP10C-5F388C
designator U?
XP 1.8/2.5/3.3V FPGA, 244 I/Os, 10K LUTs, 388-Pin fpBGA, Speed Grade 5, Commerical Grade; Published: 6-Oct-2005; LatestRevisionDate: 13-Apr-2006; LatestRevisionNote: IPC-7351 Footprint Added.; DatasheetVersion: ver05.1, Nov-2007; PackageVersion: ver01.8, Dec-2008; PackageReference: fpBGA388; Publisher: Altium Limited; PackageDescription: 388-Ball Fine Pitch Ball Grid Array (fpBGA388); ComponentLink1Description: Manufacturer Link; ComponentLink1URL: http://www.latticesemi.com/products/fpga/xp/index.cfm; ComponentLink2Description: Datasheet; ComponentLink2URL: http://www.latticesemi.com/lit/docs/datasheets/fpga/DS1001.pdf; ComponentLink3Description: Packaging Specification; ComponentLink3URL: http://www.latticesemi.com/lit/docs/package/pkg.pdf
footprint fpBGA388 (BGA, 388-Leads, Body 23x23mm, Pitch 1mm)
3D model XP10C-fpBGA-388 (388-Ball Fine Pitch Ball Grid Array (fpBGA388))
part A pins: A2 PT5A (io), A3 PT4B (io), A4 PT7A (io), A5 PT9B (io), A6 PT10B/VREF2_0 (io), A7 PT13A/DI (io), A8 PT14A/VREF1_0 (io), A9 PT15B (io), A10 PT19A/PCLKT0_0 (io), A11 PT19B/PCLKC0_0 (io), B3 PT4A (io), B4 PT5B (io), B5 PT8A (io), B6 PT10A/DQS (io), B7 PT12B (io), B8 PT14B (io), B9 PT18A/DQS (io), B10 PT18B (io), B11 PT20A/CS1N (io), C3 PT3A (io), C4 PT3B (io), C5 PT7B (io), C6 PT12A/CSN (io), C7 PT13B (io), C8 PT15A/WRITEN (io), C9 PT11A (io), C10 PT11B (io), C11 PT20B/BUSY (io), D3 PT2A (io), D8 PT6A (io), D9 PT6B (io), D10 PT16A/DOUT (io), D11 PT17B (io)
part B pins: A12 PT22A (io), A13 PT23A/D5 (io), A14 PT26A/DQS (io), A15 PT27A (io), A16 PT28A/D2 (io), A17 PT29A/VREF2_1 (io), A18 PT31A (io), A19 PT32A (io), A20 PT34A/DQS (io), A21 PT36A (io), B12 PT21B/D7 (io), B13 PT22B/D6 (io), B14 PT23B (io), B15 PT26B (io), B16 PT27B/D3 (io), B17 PT28B (io), B18 PT29B/D1 (io), B19 PT31B (io), B20 PT33B (io), B21 PT34B/VREF1_1 (io), B22 PT36B (io), C12 PT21A (io), C13 PT30A/D0 (io), C14 PT30B (io), C18 PT39A (io), C19 PT38B (io), C20 PT38A (io), C21 PT37B (io), C22 PT37A (io), D12 PT24A/D4 (io), D13 PT25B (io), D14 PT35A (io), D15 PT35B (io)
part C pins: D21 PR2A (io), D22 PR2B (io), E21 PR3A/RUM0_PLLT_FB_A (io), E22 PR3B/RUM0_PLLC_FB_A (io), F20 PR6B (io), F21 PR4A (io), F22 PR4B (io), G19 PR8A (io), G20 PR5A/VREF2_2 (io), G21 PR7A/DQS (io), G22 PR7B (io), H19 PR8B (io), H20 PR9A (io), H21 PR12A/RUM0_PLLT_IN_A (io), H22 PR12B/RUM0_PLLC_IN_A (io), J19 PR11A (io), J20 PR9B (io), J21 PR13A (io), J22 PR13B (io), K19 PR11B (io), K20 PR16A/DQS (io), K21 PR17A/PCLKT2_0 (io), K22 PR17B/PCLKC2_0 (io), L19 PR16B (io), L20 PR15B (io), L21 PR14A/VREF1_2 (io), L22 PR18A (io), M22 PR18B (io)
part D pins: M19 PR19A (io), M20 PR19B (io), N19 PR23B (io), N20 PR22A/VREF2_3 (io), N21 PR20A (io), P19 PR29B (io), P20 PR29A (io), P21 PR20B (io), P22 PR21A (io), R19 PR32B (io), R20 PR31A/VREF1_3 (io), R21 PR24B (io), R22 PR21B (io), T19 PR35A (io), T20 PR35B (io), T21 PR25B/RLM0_PLLC_IN_A (io), T22 PR24A/DQS (io), U19 PR34B/RLM0_PLLC_FB_A (io), U20 PR34A/RLM0_PLLT_FB_A (io), U21 PR26B (io), U22 PR25A/RLM0_PLLT_IN_A (io), V19 PR33B (io), V20 PR33A/DQS (io), V21 PR28B (io), V22 PR26A (io), W21 PR30B (io), W22 PR28A (io), Y22 PR30A (io)
part E pins: AA12 PB21B (io), AA13 PB22B/PCLKC4_0 (io), AA14 PB23A (io), AA15 PB26A/DQS (io), AA16 PB27A (io), AA17 PB28B (io), AA18 PB31A/VREF2_4 (io), AA19 PB34A/DQS (io), AA20 PB36B (io), AA21 PB37B (io), AA22 PB38A (io), AB12 PB21A (io), AB13 PB22A/PCLKT4_0 (io), AB14 PB23B (io), AB15 PB26B/VREF1_4 (io), AB16 PB27B (io), AB17 PB30A (io), AB18 PB31B (io), AB19 PB33B (io), AB20 PB36A (io), AB21 PB37A (io), W12 PB24A (io), W13 PB25B (io), W14 PB35A (io), W15 PB35B (io), W16 PB39A (io), Y13 PB29A (io), Y14 PB29B (io), Y17 PB28A (io), Y18 PB30B (io), Y19 PB32A (io), Y20 PB34B (io), Y21 PB38B (io)
part F pins: AA3 PB4B (io), AA4 PB5B (io), AA5 PB7B (io), AA6 PB10A/DQS (io), AA7 PB12A (io), AA8 PB13B (io), AA9 PB15B (io), AA10 PB18B (io), AA11 PB19A (io), AB2 PB4A (io), AB3 PB5A (io), AB4 PB7A/VREF1_5 (io), AB5 PB8A (io), AB6 PB10B (io), AB7 PB12B/VREF2_5 (io), AB8 PB14A (io), AB9 PB15A (io), AB10 PB18A/DQS (io), AB11 PB19B (io), W6 PB2A (io), W8 PB6A (io), W9 PB6B (io), W10 PB16A (io), W11 PB17B (io), Y4 PB3A (io), Y5 PB3B (io), Y6 PB9B (io), Y7 PB13A (io), Y8 PB14B (io), Y9 PB11A (io), Y10 PB11B (io), Y11 PB20A (io), Y12 PB20B (io)
part G pins: M3 PL19A (io), M4 PL19B (io), N2 PL20B/PCLKC6_0 (io), N3 PL22A (io), N4 PL23B/VREF1_6 (io), P1 PL20A/PCLKT6_0 (io), P2 PL21B (io), P3 PL29A (io), P4 PL29B (io), R1 PL21A (io), R2 PL24B (io), R3 PL31A/VREF2_6 (io), R4 PL32B (io), T1 PL24A/DQS (io), T2 PL25B/LLM0_PLLC_IN_A (io), T3 PL33A/DQS (io), T4 PL33B (io), U1 PL25A/LLM0_PLLT_IN_A (io), U2 PL26B (io), U3 PL35B (io), U4 PL35A (io), V1 PL26A (io), V2 PL28B (io), V3 PL34B/LLM0_PLLC_FB_A (io), V4 PL34A/LLM0_PLLT_FB_A (io), W1 PL28A (io), W2 PL30B (io), Y1 PL30A (io)
part H pins: D1 PL2B (io), D2 PL2A (io), E1 PL8B (io), E2 PL3A/LUM0_PLLT_FB_A (io), E3 PL3B/LUM0_PLLC_FB_A (io), F1 PL8A (io), F2 PL4B (io), F3 PL4A (io), G1 PL11A (io), G2 PL7B (io), G3 PL7A/DQS (io), H1 PL12B/LUM0_PLLC_IN_A (io), H2 PL11B (io), H3 PL6B/VREF1_7 (io), H4 PL5A (io), J1 PL13A (io), J2 PL12A/LUM0_PLLT_IN_A (io), J3 PL15B (io), J4 PL9A (io), K1 PL16A/DQS (io), K2 PL13B (io), K3 PL14A/VREF2_7 (io), K4 PL9B (io), L1 PL18A (io), L2 PL16B (io), L3 PL17A (io), L4 PL17B (io), M1 PL18B (io)
part I pins: B1 DONE (io), B2 CFG1 (in), C1 CFG0 (in), D18 TCK (in), D19 TMS (in), D20 TDI (in), F4 PROGRAMN (in), F19 TDO (out), G4 CCLK (io), W5 SLEEPN (in), Y2 INITN (io)
part J pins: E20 VCCJ (power), G7 VCCAUX (power), G8 VCCIO0 (power), G9 VCCIO0 (power), G10 VCCIO0 (power), G11 VCCIO0 (power), G12 VCCIO1 (power), G13 VCCIO1 (power), G14 VCCIO1 (power), G15 VCCIO1 (power), G16 VCCAUX (power), H7 VCCIO7 (power), H8 VCCIO0 (power), H9 VCC (power), H15 VCCIO1 (power), H16 VCCIO2 (power), J7 VCCIO7 (power), J8 VCC (power), J15 VCC (power), J16 VCCIO2 (power), K7 VCCIO7 (power), K8 VCC (power), K15 VCC (power), K16 VCCIO2 (power), L7 VCCIO7 (power), L8 VCC (power), L15 VCC (power), L16 VCCIO2 (power), M2 VCCP0 (power), M7 VCCIO6 (power), M8 VCC (power), M15 VCC (power), M16 VCCIO3 (power), M21 VCCP1 (power), N7 VCCIO6 (power), N8 VCC (power), N15 VCC (power), N16 VCCIO3 (power), P7 VCCIO6 (power), P8 VCC (power), P15 VCC (power), P16 VCCIO3 (power), R7 VCCIO6 (power), R8 VCCIO5 (power), R9 VCC (power), R15 VCCIO4 (power), R16 VCCIO3 (power), T7 VCCAUX (power), T8 VCCIO5 (power), T9 VCCIO5 (power), T10 VCCIO5 (power), T11 VCCIO5 (power), T12 VCCIO4 (power), T13 VCCIO4 (power), T14 VCCIO4 (power), T15 VCCIO4 (power), T16 VCCAUX (power)
part K pins: A1 GND (power), A22 GND (power), AB1 GND (power), AB22 GND (power), H10 GND (power), H11 GND (power), H12 GND (power), H13 GND (power), H14 GND (power), J9 GND (power), J10 GND (power), J11 GND (power), J12 GND (power), J13 GND (power), J14 GND (power), K9 GND (power), K10 GND (power), K11 GND (power), K12 GND (power), K13 GND (power), K14 GND (power), L9 GND (power), L10 GND (power), L11 GND (power), L12 GND (power), L13 GND (power), L14 GND (power), M9 GND (power), M10 GND (power), M11 GND (power), M12 GND (power), M13 GND (power), M14 GND (power), N1 GNDP0 (power), N9 GND (power), N10 GND (power), N11 GND (power), N12 GND (power), N13 GND (power), N14 GND (power), N22 GNDP1 (power), P9 GND (power), P10 GND (power), P11 GND (power), P12 GND (power), P13 GND (power), P14 GND (power), R10 GND (power), R11 GND (power), R12 GND (power), R13 GND (power), R14 GND (power)
part L pins: AA1 NC, AA2 NC, C2 NC, C15 NC, C16 NC, C17 NC, D4 NC, D5 NC, D6 NC, D7 NC, D16 NC, D17 NC, E4 NC, E19 NC, W3 NC, W4 NC, W7 NC, W17 NC, W18 NC, W19 NC, W20 NC, Y3 NC, Y15 NC, Y16 NC
part A text: BANK 0
part B text: BANK 1
part C text: BANK 2
part D text: BANK 3
part E text: BANK 4
part F text: BANK 5
part G text: BANK 6
part H text: BANK 7

## LFXP10C-5FN256C
designator U?
XP 1.8/2.5/3.3V FPGA, 188 I/Os, 10K LUTs, 256-Pin fpBGA, Speed Grade 5, Commerical Grade, Pb-Free; Published: 6-Oct-2005; LatestRevisionDate: 13-Apr-2006; LatestRevisionNote: IPC-7351 Footprint Added.; DatasheetVersion: ver05.1, Nov-2007; PackageVersion: ver01.8, Dec-2008; PackageReference: fpBGA256; Publisher: Altium Limited; PackageDescription: 256-Ball Fine Pitch Ball Grid Array (fpBGA256); Code_IPC: BGA100P16X16-256; ComponentLink1Description: Manufacturer Link; ComponentLink1URL: http://www.latticesemi.com/products/fpga/xp/index.cfm; ComponentLink2Description: Datasheet; ComponentLink2URL: http://www.latticesemi.com/lit/docs/datasheets/fpga/DS1001.pdf; ComponentLink3Description: Packaging Specification; ComponentLink3URL: http://www.latticesemi.com/lit/docs/package/pkg.pdf
footprint fpBGA256 (BGA, 256-Leads, Body 17x17mm, Pitch 1mm)
3D model XP10C-fpBGA-256 (256-Ball Fine Pitch Ball Grid Array (fpBGA256))
part A pins: A2 PT3B (io), A3 PT6A/DQS (io), A4 PT8B (io), A5 PT9B (io), A6 PT11B (io), A7 PT15A/PCLKT0_0 (io), A8 PT15B/PCLKC0_0 (io), B1 PT3A (io), B2 PT4A (io), B3 PT5B (io), B5 PT9A/DI (io), B6 PT8A/CSN (io), B7 PT14B (io), B8 PT16A/CS1N (io), C5 PT2A (io), C6 PT11A/WRITEN (io), C7 PT14A/DQS (io), D5 PT6B/VREF2_0 (io), D6 PT7A (io), D7 PT10A/VREF1_0 (io), D8 PT12A/DOUT (io), E6 PT7B (io), E7 PT10B (io), E8 PT13B (io), E9 PT16B/BUSY (io), F5 PT2B (io)
part B pins: A9 PT18A (io), A10 PT19B (io), A11 PT23A (io), A12 PT24B (io), A13 PT26B (io), A14 PT29B (io), A15 PT31B (io), B9 PT21B (io), B10 PT19A/D5 (io), B11 PT22B (io), B12 PT24A/D2 (io), B13 PT30B (io), B15 PT31A (io), C8 PT17A (io), C9 PT17B/D7 (io), C10 PT25B/D1 (io), C11 PT30A/DQS (io), C12 PT23B/D3 (io), C13 PT26A/D0 (io), D9 PT20A/D4 (io), D10 PT18B/D6 (io), D11 PT22A/DQS (io), D12 PT28A/VREF1_1 (io), E10 PT25A/VREF2_1 (io), E11 PT27A (io), F12 PT27B (io)
part C pins: B16 PR7B (io), C15 PR3A/RUM0_PLLT_FB_A (io), C16 PR7A/DQS (io), D15 PR3B/RUM0_PLLC_FB_A (io), E14 PR4A (io), E15 PR5A/VREF2_2 (io), F13 PR9A (io), F14 PR4B (io), F15 PR14A (io), F16 PR8A/RUM0_PLLT_IN_A (io), G12 PR9B (io), G13 PR2A (io), G14 PR11A (io), G15 PR11B (io), G16 PR8B/RUM0_PLLC_IN_A (io), H12 PR13A (io), H13 PR13B (io), H14 PR6B/VREF1_2 (io), H15 PR2B (io), H16 PR12A/PCLKT2_0 (io), J16 PR12B/PCLKC2_0 (io)
part D pins: J14 PR16A (io), J15 PR16B (io), K12 PR17A (io), K13 PR22A/VREF2_3 (io), K14 PR19B (io), K15 PR19A (io), K16 PR18A (io), L12 PR17B (io), L13 PR25A (io), L14 PR21A (io), L15 PR21B (io), L16 PR18B (io), M14 PR25B (io), M15 PR15B (io), M16 PR20B (io), N14 PR23B/VREF1_3 (io), N15 PR26A (io), N16 PR20A (io), P15 PR26B (io), P16 PR24B (io), R16 PR24A/DQS (io)
part E pins: M9 PB21B (io), M10 PB25B (io), M11 PB24A (io), N9 PB20A (io), N10 PB25A (io), N11 PB24B (io), N12 PB30B (io), P9 PB17B (io), P10 PB19B (io), P11 PB30A/DQS (io), P12 PB27B (io), P13 PB23A (io), P14 PB26B (io), R9 PB17A (io), R10 PB19A (io), R11 PB27A/VREF2_4 (io), R12 PB22A/DQS (io), R13 PB23B (io), R14 PB29B (io), R15 PB31B (io), T10 PB18A/PCLKT4_0 (io), T11 PB18B/PCLKC4_0 (io), T12 PB22B/VREF1_4 (io), T13 PB26A (io), T14 PB28A (io), T15 PB31A (io)
part F pins: M7 PB3A (io), M8 PB9B (io), N5 PB2B (io), N6 PB4A (io), N7 PB9A (io), N8 PB13B (io), P5 PB5B/VREF1_5 (io), P6 PB10B (io), P7 PB12A (io), P8 PB15A (io), R1 PB3B (io), R2 PB6A/DQS (io), R3 PB7A (io), R4 PB2A (io), R5 PB8B/VREF2_5 (io), R6 PB11B (io), R7 PB14A/DQS (io), R8 PB16A (io), T2 PB6B (io), T3 PB7B (io), T4 PB8A (io), T5 PB10A (io), T6 PB11A (io), T7 PB14B (io), T8 PB15B (io), T9 PB16B (io)
part G pins: J4 PL15B (io), J5 PL22A/VREF1_6 (io), K1 PL17A/PCLKT6_0 (io), K2 PL17B/PCLKC6_0 (io), K3 PL19A (io), K4 PL20A (io), K5 PL20B (io), L1 PL16A (io), L2 PL16B (io), L3 PL19B (io), L4 PL21A (io), L5 PL25A (io), M1 PL18A (io), M2 PL18B (io), M3 PL26A (io), M6 PL25B (io), N1 PL23B/VREF2_6 (io), N2 PL21B (io), N3 PL26B (io), P1 PL24A/DQS (io), P2 PL24B (io)
part H pins: D1 PL2A (io), D2 PL3A/LUM0_PLLT_FB_A (io), D3 PL3B/LUM0_PLLC_FB_A (io), E1 PL7A/DQS (io), E2 PL5A/VREF1_7 (io), E3 PL12A (io), F1 PL7B (io), F2 PL4B (io), F3 PL4A (io), F4 PL12B (io), G1 PL2B (io), G2 PL8B/LUM0_PLLC_IN_A (io), G3 PL8A/LUM0_PLLT_IN_A (io), G4 PL6B/VREF2_7 (io), G5 PL14A (io), H1 PL9A (io), H2 PL9B (io), H3 PL13A (io), J1 PL11A (io), J2 PL11B (io), J3 PL13B (io)
part I pins: B4 CFG1 (in), B14 TCK (in), C1 CCLK (io), C2 PROGRAMN (in), C3 DONE (in), C4 CFG0 (in), C14 TMS (in), D14 TDI (in), E16 TDO (out), P3 INITN (io), P4 SLEEPN (in)
part J pins: D4 VCC (power), D13 VCC (power), D16 VCCJ (power), E4 VCCAUX (power), E5 VCC (power), E12 VCC (power), E13 VCCAUX (power), F7 VCCIO0 (power), F8 VCCIO0 (power), F9 VCCIO1 (power), F10 VCCIO1 (power), G6 VCCIO7 (power), G11 VCCIO2 (power), H4 VCCP0 (power), H6 VCCIO7 (power), H11 VCCIO2 (power), J6 VCCIO6 (power), J11 VCCIO3 (power), J12 VCCP1 (power), K6 VCCIO6 (power), K11 VCCIO3 (power), L7 VCCIO5 (power), L8 VCCIO5 (power), L9 VCCIO4 (power), L10 VCCIO4 (power), M4 VCCAUX (power), M5 VCC (power), M12 VCC (power), M13 VCCAUX (power), N4 VCC (power), N13 VCC (power)
part K pins: A1 GND (power), A16 GND (power), F6 GND (power), F11 GND (power), G7 GND (power), G8 GND (power), G9 GND (power), G10 GND (power), H5 GNDP0 (power), H7 GND (power), H8 GND (power), H9 GND (power), H10 GND (power), J7 GND (power), J8 GND (power), J9 GND (power), J10 GND (power), J13 GNDP1 (power), K7 GND (power), K8 GND (power), K9 GND (power), K10 GND (power), L6 GND (power), L11 GND (power), T1 GND (power), T16 GND (power)
part A text: BANK 0
part B text: BANK 1
part C text: BANK 2
part D text: BANK 3
part E text: BANK 4
part F text: BANK 5
part G text: BANK 6
part H text: BANK 7

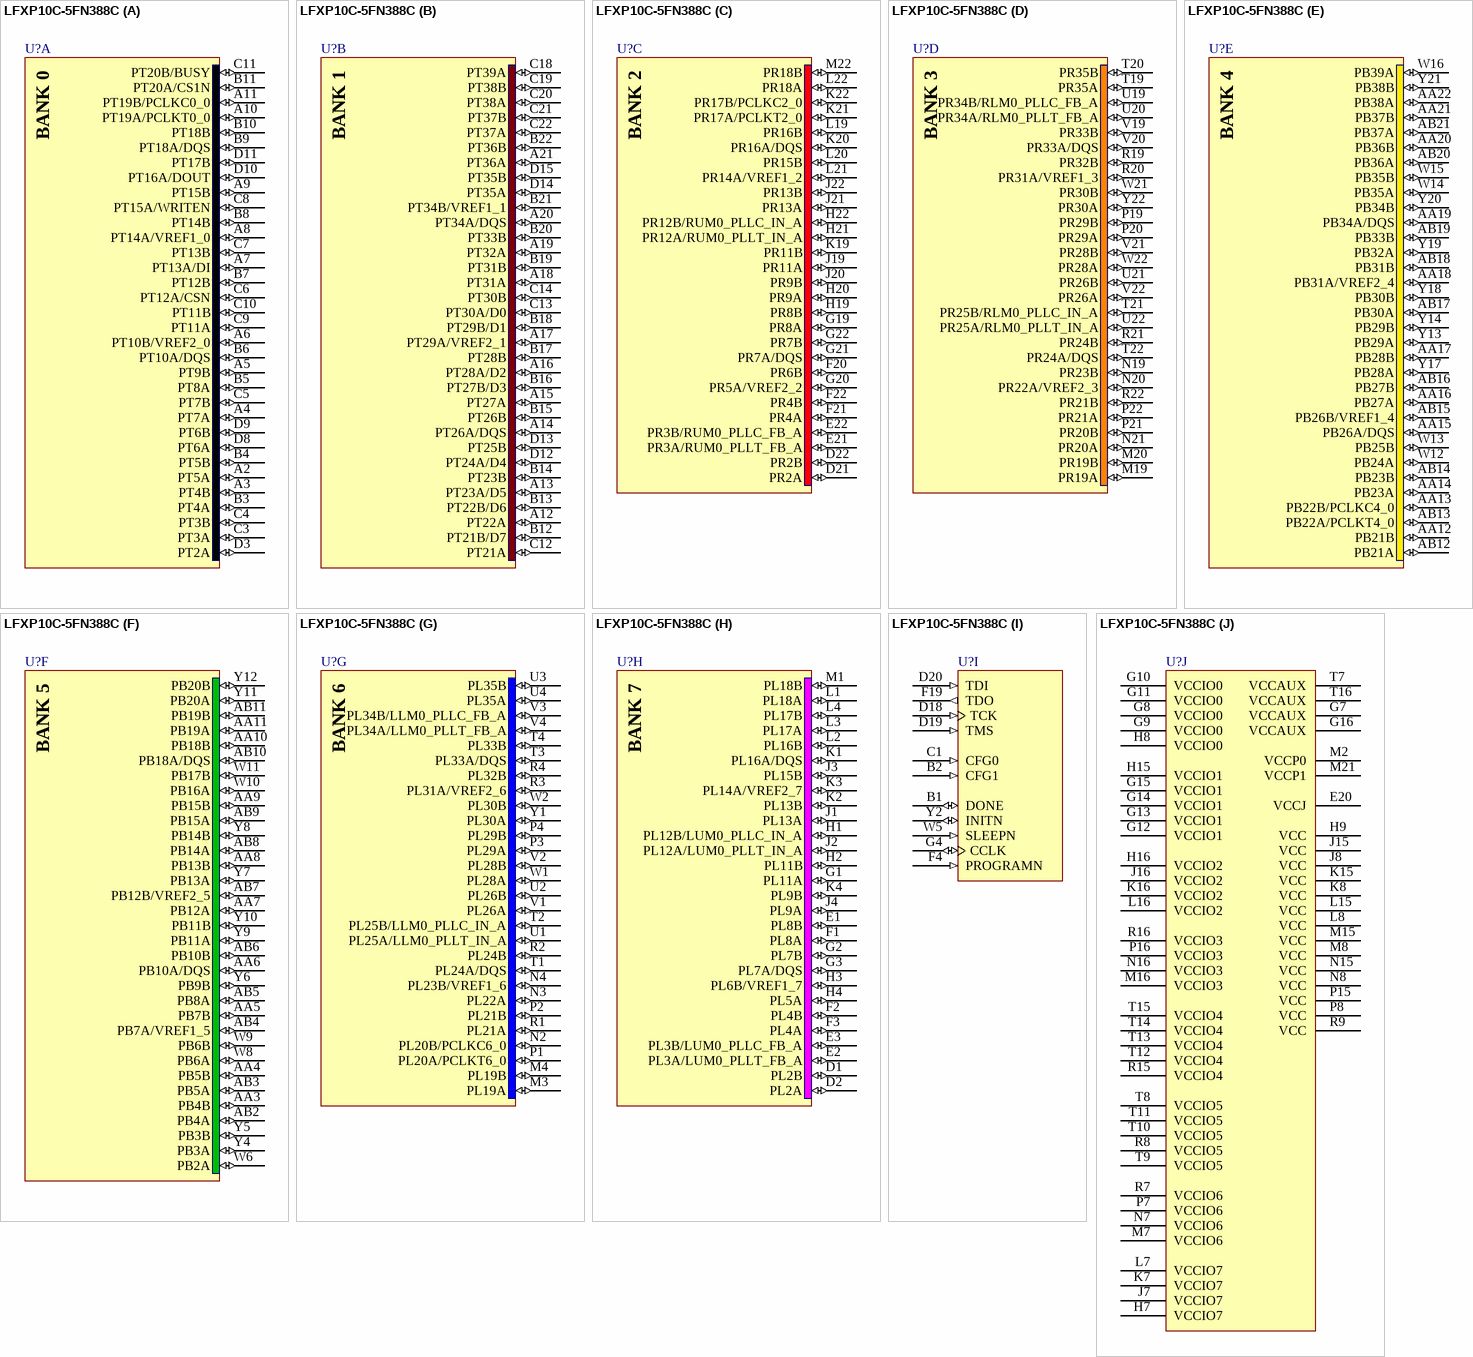
[diagram p91: symbol LFXP10C-5FN388C]

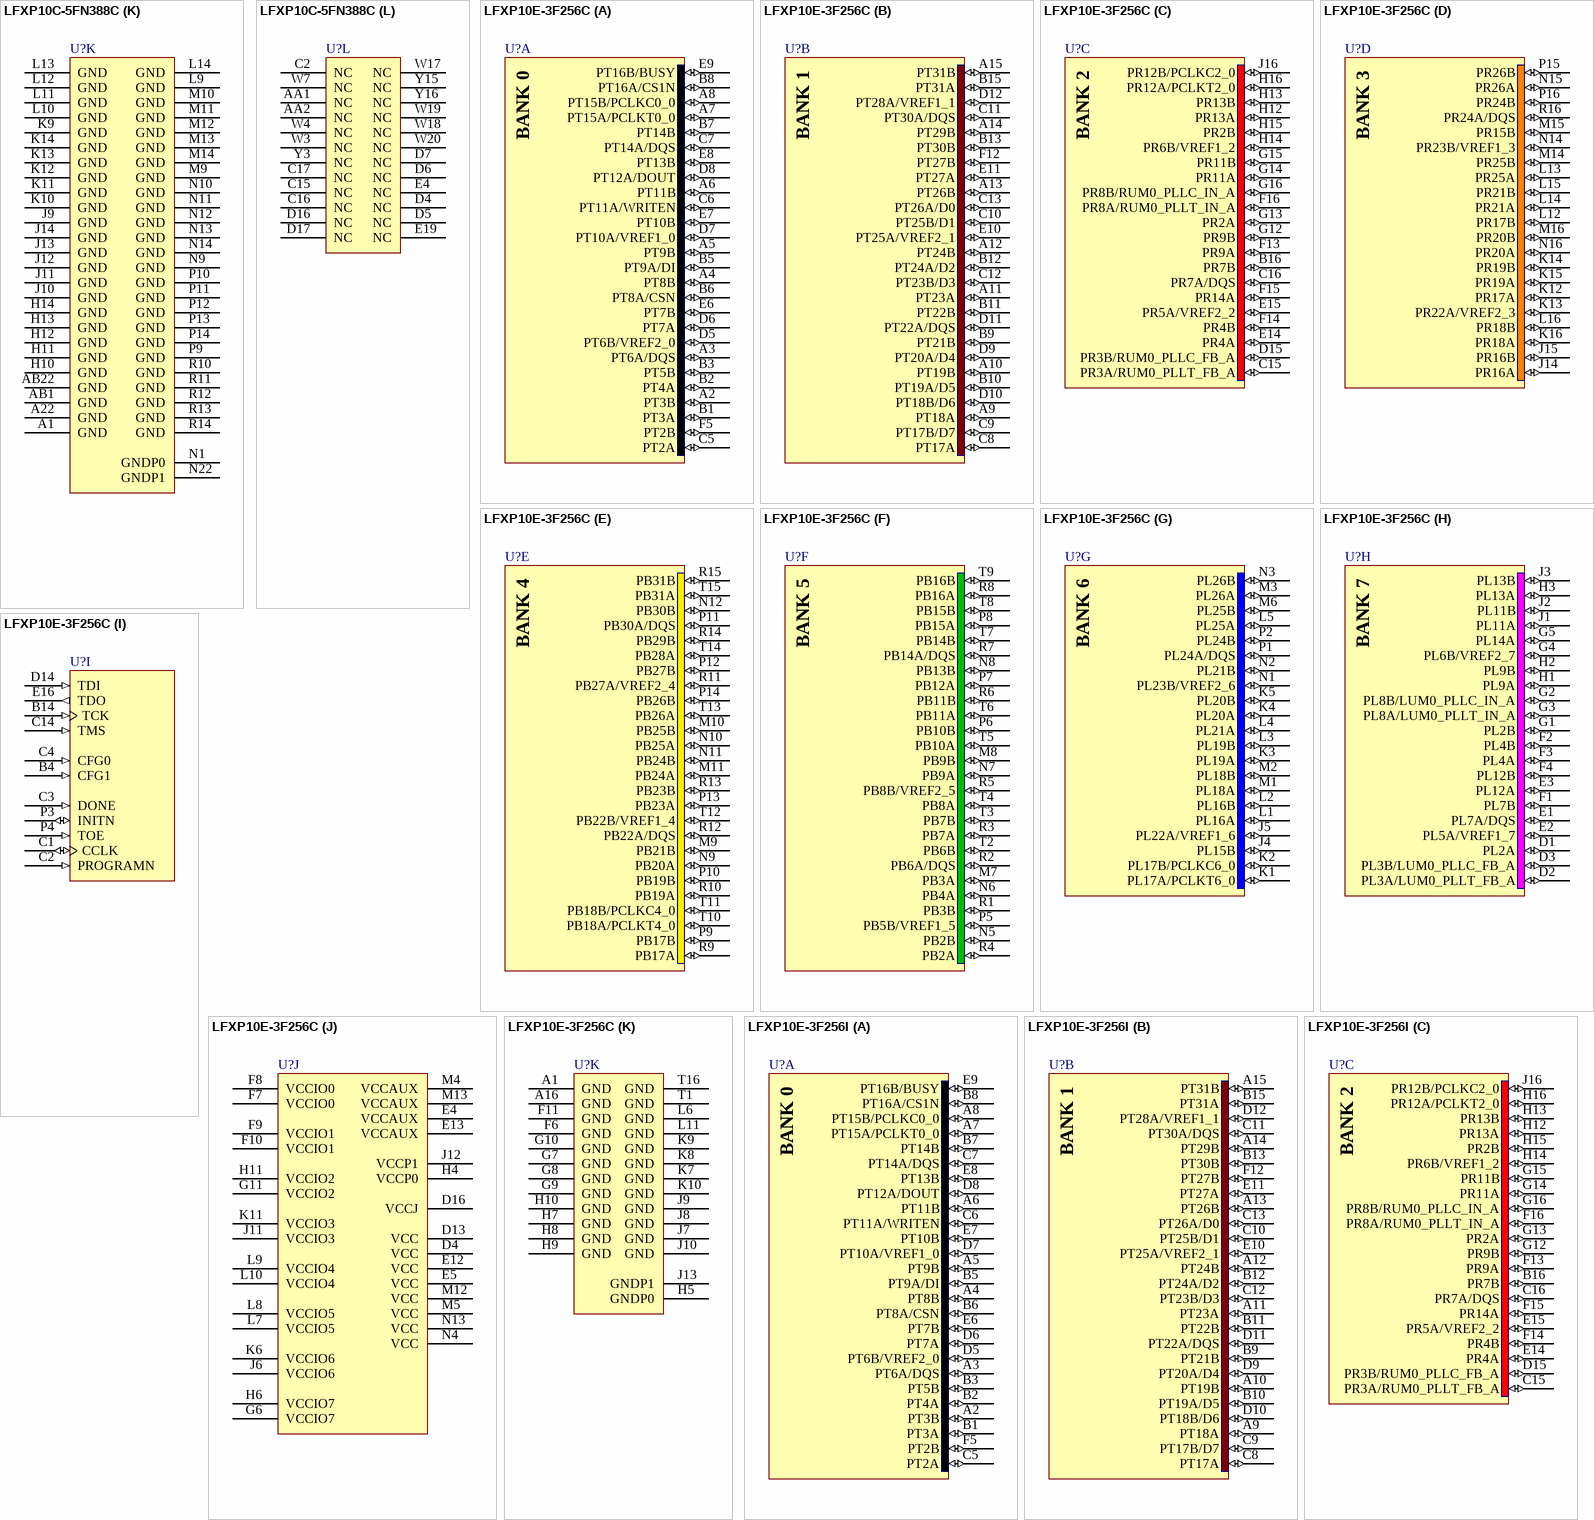
[diagram p92: symbols LFXP10C-5FN388C to LFXP10E-3F256I]

## LFXP10C-5FN388C
designator U?
XP 1.8/2.5/3.3V FPGA, 244 I/Os, 10K LUTs, 388-Pin fpBGA, Speed Grade 5, Commerical Grade, Pb-Free; Published: 6-Oct-2005; LatestRevisionDate: 13-Apr-2006; LatestRevisionNote: IPC-7351 Footprint Added.; DatasheetVersion: ver05.1, Nov-2007; PackageVersion: ver01.8, Dec-2008; PackageReference: fpBGA388; Publisher: Altium Limited; PackageDescription: 388-Ball Fine Pitch Ball Grid Array (fpBGA388); ComponentLink1Description: Manufacturer Link; ComponentLink1URL: http://www.latticesemi.com/products/fpga/xp/index.cfm; ComponentLink2Description: Datasheet; ComponentLink2URL: http://www.latticesemi.com/lit/docs/datasheets/fpga/DS1001.pdf; ComponentLink3Description: Packaging Specification; ComponentLink3URL: http://www.latticesemi.com/lit/docs/package/pkg.pdf
footprint fpBGA388 (BGA, 388-Leads, Body 23x23mm, Pitch 1mm)
3D model XP10C-fpBGA-388 (388-Ball Fine Pitch Ball Grid Array (fpBGA388))
part A pins: A2 PT5A (io), A3 PT4B (io), A4 PT7A (io), A5 PT9B (io), A6 PT10B/VREF2_0 (io), A7 PT13A/DI (io), A8 PT14A/VREF1_0 (io), A9 PT15B (io), A10 PT19A/PCLKT0_0 (io), A11 PT19B/PCLKC0_0 (io), B3 PT4A (io), B4 PT5B (io), B5 PT8A (io), B6 PT10A/DQS (io), B7 PT12B (io), B8 PT14B (io), B9 PT18A/DQS (io), B10 PT18B (io), B11 PT20A/CS1N (io), C3 PT3A (io), C4 PT3B (io), C5 PT7B (io), C6 PT12A/CSN (io), C7 PT13B (io), C8 PT15A/WRITEN (io), C9 PT11A (io), C10 PT11B (io), C11 PT20B/BUSY (io), D3 PT2A (io), D8 PT6A (io), D9 PT6B (io), D10 PT16A/DOUT (io), D11 PT17B (io)
part B pins: A12 PT22A (io), A13 PT23A/D5 (io), A14 PT26A/DQS (io), A15 PT27A (io), A16 PT28A/D2 (io), A17 PT29A/VREF2_1 (io), A18 PT31A (io), A19 PT32A (io), A20 PT34A/DQS (io), A21 PT36A (io), B12 PT21B/D7 (io), B13 PT22B/D6 (io), B14 PT23B (io), B15 PT26B (io), B16 PT27B/D3 (io), B17 PT28B (io), B18 PT29B/D1 (io), B19 PT31B (io), B20 PT33B (io), B21 PT34B/VREF1_1 (io), B22 PT36B (io), C12 PT21A (io), C13 PT30A/D0 (io), C14 PT30B (io), C18 PT39A (io), C19 PT38B (io), C20 PT38A (io), C21 PT37B (io), C22 PT37A (io), D12 PT24A/D4 (io), D13 PT25B (io), D14 PT35A (io), D15 PT35B (io)
part C pins: D21 PR2A (io), D22 PR2B (io), E21 PR3A/RUM0_PLLT_FB_A (io), E22 PR3B/RUM0_PLLC_FB_A (io), F20 PR6B (io), F21 PR4A (io), F22 PR4B (io), G19 PR8A (io), G20 PR5A/VREF2_2 (io), G21 PR7A/DQS (io), G22 PR7B (io), H19 PR8B (io), H20 PR9A (io), H21 PR12A/RUM0_PLLT_IN_A (io), H22 PR12B/RUM0_PLLC_IN_A (io), J19 PR11A (io), J20 PR9B (io), J21 PR13A (io), J22 PR13B (io), K19 PR11B (io), K20 PR16A/DQS (io), K21 PR17A/PCLKT2_0 (io), K22 PR17B/PCLKC2_0 (io), L19 PR16B (io), L20 PR15B (io), L21 PR14A/VREF1_2 (io), L22 PR18A (io), M22 PR18B (io)
part D pins: M19 PR19A (io), M20 PR19B (io), N19 PR23B (io), N20 PR22A/VREF2_3 (io), N21 PR20A (io), P19 PR29B (io), P20 PR29A (io), P21 PR20B (io), P22 PR21A (io), R19 PR32B (io), R20 PR31A/VREF1_3 (io), R21 PR24B (io), R22 PR21B (io), T19 PR35A (io), T20 PR35B (io), T21 PR25B/RLM0_PLLC_IN_A (io), T22 PR24A/DQS (io), U19 PR34B/RLM0_PLLC_FB_A (io), U20 PR34A/RLM0_PLLT_FB_A (io), U21 PR26B (io), U22 PR25A/RLM0_PLLT_IN_A (io), V19 PR33B (io), V20 PR33A/DQS (io), V21 PR28B (io), V22 PR26A (io), W21 PR30B (io), W22 PR28A (io), Y22 PR30A (io)
part E pins: AA12 PB21B (io), AA13 PB22B/PCLKC4_0 (io), AA14 PB23A (io), AA15 PB26A/DQS (io), AA16 PB27A (io), AA17 PB28B (io), AA18 PB31A/VREF2_4 (io), AA19 PB34A/DQS (io), AA20 PB36B (io), AA21 PB37B (io), AA22 PB38A (io), AB12 PB21A (io), AB13 PB22A/PCLKT4_0 (io), AB14 PB23B (io), AB15 PB26B/VREF1_4 (io), AB16 PB27B (io), AB17 PB30A (io), AB18 PB31B (io), AB19 PB33B (io), AB20 PB36A (io), AB21 PB37A (io), W12 PB24A (io), W13 PB25B (io), W14 PB35A (io), W15 PB35B (io), W16 PB39A (io), Y13 PB29A (io), Y14 PB29B (io), Y17 PB28A (io), Y18 PB30B (io), Y19 PB32A (io), Y20 PB34B (io), Y21 PB38B (io)
part F pins: AA3 PB4B (io), AA4 PB5B (io), AA5 PB7B (io), AA6 PB10A/DQS (io), AA7 PB12A (io), AA8 PB13B (io), AA9 PB15B (io), AA10 PB18B (io), AA11 PB19A (io), AB2 PB4A (io), AB3 PB5A (io), AB4 PB7A/VREF1_5 (io), AB5 PB8A (io), AB6 PB10B (io), AB7 PB12B/VREF2_5 (io), AB8 PB14A (io), AB9 PB15A (io), AB10 PB18A/DQS (io), AB11 PB19B (io), W6 PB2A (io), W8 PB6A (io), W9 PB6B (io), W10 PB16A (io), W11 PB17B (io), Y4 PB3A (io), Y5 PB3B (io), Y6 PB9B (io), Y7 PB13A (io), Y8 PB14B (io), Y9 PB11A (io), Y10 PB11B (io), Y11 PB20A (io), Y12 PB20B (io)
part G pins: M3 PL19A (io), M4 PL19B (io), N2 PL20B/PCLKC6_0 (io), N3 PL22A (io), N4 PL23B/VREF1_6 (io), P1 PL20A/PCLKT6_0 (io), P2 PL21B (io), P3 PL29A (io), P4 PL29B (io), R1 PL21A (io), R2 PL24B (io), R3 PL31A/VREF2_6 (io), R4 PL32B (io), T1 PL24A/DQS (io), T2 PL25B/LLM0_PLLC_IN_A (io), T3 PL33A/DQS (io), T4 PL33B (io), U1 PL25A/LLM0_PLLT_IN_A (io), U2 PL26B (io), U3 PL35B (io), U4 PL35A (io), V1 PL26A (io), V2 PL28B (io), V3 PL34B/LLM0_PLLC_FB_A (io), V4 PL34A/LLM0_PLLT_FB_A (io), W1 PL28A (io), W2 PL30B (io), Y1 PL30A (io)
part H pins: D1 PL2B (io), D2 PL2A (io), E1 PL8B (io), E2 PL3A/LUM0_PLLT_FB_A (io), E3 PL3B/LUM0_PLLC_FB_A (io), F1 PL8A (io), F2 PL4B (io), F3 PL4A (io), G1 PL11A (io), G2 PL7B (io), G3 PL7A/DQS (io), H1 PL12B/LUM0_PLLC_IN_A (io), H2 PL11B (io), H3 PL6B/VREF1_7 (io), H4 PL5A (io), J1 PL13A (io), J2 PL12A/LUM0_PLLT_IN_A (io), J3 PL15B (io), J4 PL9A (io), K1 PL16A/DQS (io), K2 PL13B (io), K3 PL14A/VREF2_7 (io), K4 PL9B (io), L1 PL18A (io), L2 PL16B (io), L3 PL17A (io), L4 PL17B (io), M1 PL18B (io)
part I pins: B1 DONE (io), B2 CFG1 (in), C1 CFG0 (in), D18 TCK (in), D19 TMS (in), D20 TDI (in), F4 PROGRAMN (in), F19 TDO (out), G4 CCLK (io), W5 SLEEPN (in), Y2 INITN (io)
part J pins: E20 VCCJ (power), G7 VCCAUX (power), G8 VCCIO0 (power), G9 VCCIO0 (power), G10 VCCIO0 (power), G11 VCCIO0 (power), G12 VCCIO1 (power), G13 VCCIO1 (power), G14 VCCIO1 (power), G15 VCCIO1 (power), G16 VCCAUX (power), H7 VCCIO7 (power), H8 VCCIO0 (power), H9 VCC (power), H15 VCCIO1 (power), H16 VCCIO2 (power), J7 VCCIO7 (power), J8 VCC (power), J15 VCC (power), J16 VCCIO2 (power), K7 VCCIO7 (power), K8 VCC (power), K15 VCC (power), K16 VCCIO2 (power), L7 VCCIO7 (power), L8 VCC (power), L15 VCC (power), L16 VCCIO2 (power), M2 VCCP0 (power), M7 VCCIO6 (power), M8 VCC (power), M15 VCC (power), M16 VCCIO3 (power), M21 VCCP1 (power), N7 VCCIO6 (power), N8 VCC (power), N15 VCC (power), N16 VCCIO3 (power), P7 VCCIO6 (power), P8 VCC (power), P15 VCC (power), P16 VCCIO3 (power), R7 VCCIO6 (power), R8 VCCIO5 (power), R9 VCC (power), R15 VCCIO4 (power), R16 VCCIO3 (power), T7 VCCAUX (power), T8 VCCIO5 (power), T9 VCCIO5 (power), T10 VCCIO5 (power), T11 VCCIO5 (power), T12 VCCIO4 (power), T13 VCCIO4 (power), T14 VCCIO4 (power), T15 VCCIO4 (power), T16 VCCAUX (power)
part K pins: A1 GND (power), A22 GND (power), AB1 GND (power), AB22 GND (power), H10 GND (power), H11 GND (power), H12 GND (power), H13 GND (power), H14 GND (power), J9 GND (power), J10 GND (power), J11 GND (power), J12 GND (power), J13 GND (power), J14 GND (power), K9 GND (power), K10 GND (power), K11 GND (power), K12 GND (power), K13 GND (power), K14 GND (power), L9 GND (power), L10 GND (power), L11 GND (power), L12 GND (power), L13 GND (power), L14 GND (power), M9 GND (power), M10 GND (power), M11 GND (power), M12 GND (power), M13 GND (power), M14 GND (power), N1 GNDP0 (power), N9 GND (power), N10 GND (power), N11 GND (power), N12 GND (power), N13 GND (power), N14 GND (power), N22 GNDP1 (power), P9 GND (power), P10 GND (power), P11 GND (power), P12 GND (power), P13 GND (power), P14 GND (power), R10 GND (power), R11 GND (power), R12 GND (power), R13 GND (power), R14 GND (power)
part L pins: AA1 NC, AA2 NC, C2 NC, C15 NC, C16 NC, C17 NC, D4 NC, D5 NC, D6 NC, D7 NC, D16 NC, D17 NC, E4 NC, E19 NC, W3 NC, W4 NC, W7 NC, W17 NC, W18 NC, W19 NC, W20 NC, Y3 NC, Y15 NC, Y16 NC
part A text: BANK 0
part B text: BANK 1
part C text: BANK 2
part D text: BANK 3
part E text: BANK 4
part F text: BANK 5
part G text: BANK 6
part H text: BANK 7

## LFXP10E-3F256C
designator U?
XP 1.2V FPGA, 188 I/Os, 10K LUTs, 256-Pin fpBGA, Speed Grade 3, Commerical Grade; Published: 6-Oct-2005; LatestRevisionDate: 13-Apr-2006; LatestRevisionNote: IPC-7351 Footprint Added.; DatasheetVersion: ver05.1, Nov-2007; PackageVersion: ver01.8, Dec-2008; PackageReference: fpBGA256; Publisher: Altium Limited; PackageDescription: 256-Ball Fine Pitch Ball Grid Array (fpBGA256); Code_IPC: BGA100P16X16-256; ComponentLink1Description: Manufacturer Link; ComponentLink1URL: http://www.latticesemi.com/products/fpga/xp/index.cfm; ComponentLink2Description: Datasheet; ComponentLink2URL: http://www.latticesemi.com/lit/docs/datasheets/fpga/DS1001.pdf; ComponentLink3Description: Packaging Specification; ComponentLink3URL: http://www.latticesemi.com/lit/docs/package/pkg.pdf
footprint fpBGA256 (BGA, 256-Leads, Body 17x17mm, Pitch 1mm)
3D model XP10E-fpBGA-256 (256-Ball Fine Pitch Ball Grid Array (fpBGA256))
part A pins: A2 PT3B (io), A3 PT6A/DQS (io), A4 PT8B (io), A5 PT9B (io), A6 PT11B (io), A7 PT15A/PCLKT0_0 (io), A8 PT15B/PCLKC0_0 (io), B1 PT3A (io), B2 PT4A (io), B3 PT5B (io), B5 PT9A/DI (io), B6 PT8A/CSN (io), B7 PT14B (io), B8 PT16A/CS1N (io), C5 PT2A (io), C6 PT11A/WRITEN (io), C7 PT14A/DQS (io), D5 PT6B/VREF2_0 (io), D6 PT7A (io), D7 PT10A/VREF1_0 (io), D8 PT12A/DOUT (io), E6 PT7B (io), E7 PT10B (io), E8 PT13B (io), E9 PT16B/BUSY (io), F5 PT2B (io)
part B pins: A9 PT18A (io), A10 PT19B (io), A11 PT23A (io), A12 PT24B (io), A13 PT26B (io), A14 PT29B (io), A15 PT31B (io), B9 PT21B (io), B10 PT19A/D5 (io), B11 PT22B (io), B12 PT24A/D2 (io), B13 PT30B (io), B15 PT31A (io), C8 PT17A (io), C9 PT17B/D7 (io), C10 PT25B/D1 (io), C11 PT30A/DQS (io), C12 PT23B/D3 (io), C13 PT26A/D0 (io), D9 PT20A/D4 (io), D10 PT18B/D6 (io), D11 PT22A/DQS (io), D12 PT28A/VREF1_1 (io), E10 PT25A/VREF2_1 (io), E11 PT27A (io), F12 PT27B (io)
part C pins: B16 PR7B (io), C15 PR3A/RUM0_PLLT_FB_A (io), C16 PR7A/DQS (io), D15 PR3B/RUM0_PLLC_FB_A (io), E14 PR4A (io), E15 PR5A/VREF2_2 (io), F13 PR9A (io), F14 PR4B (io), F15 PR14A (io), F16 PR8A/RUM0_PLLT_IN_A (io), G12 PR9B (io), G13 PR2A (io), G14 PR11A (io), G15 PR11B (io), G16 PR8B/RUM0_PLLC_IN_A (io), H12 PR13A (io), H13 PR13B (io), H14 PR6B/VREF1_2 (io), H15 PR2B (io), H16 PR12A/PCLKT2_0 (io), J16 PR12B/PCLKC2_0 (io)
part D pins: J14 PR16A (io), J15 PR16B (io), K12 PR17A (io), K13 PR22A/VREF2_3 (io), K14 PR19B (io), K15 PR19A (io), K16 PR18A (io), L12 PR17B (io), L13 PR25A (io), L14 PR21A (io), L15 PR21B (io), L16 PR18B (io), M14 PR25B (io), M15 PR15B (io), M16 PR20B (io), N14 PR23B/VREF1_3 (io), N15 PR26A (io), N16 PR20A (io), P15 PR26B (io), P16 PR24B (io), R16 PR24A/DQS (io)
part E pins: M9 PB21B (io), M10 PB25B (io), M11 PB24A (io), N9 PB20A (io), N10 PB25A (io), N11 PB24B (io), N12 PB30B (io), P9 PB17B (io), P10 PB19B (io), P11 PB30A/DQS (io), P12 PB27B (io), P13 PB23A (io), P14 PB26B (io), R9 PB17A (io), R10 PB19A (io), R11 PB27A/VREF2_4 (io), R12 PB22A/DQS (io), R13 PB23B (io), R14 PB29B (io), R15 PB31B (io), T10 PB18A/PCLKT4_0 (io), T11 PB18B/PCLKC4_0 (io), T12 PB22B/VREF1_4 (io), T13 PB26A (io), T14 PB28A (io), T15 PB31A (io)
part F pins: M7 PB3A (io), M8 PB9B (io), N5 PB2B (io), N6 PB4A (io), N7 PB9A (io), N8 PB13B (io), P5 PB5B/VREF1_5 (io), P6 PB10B (io), P7 PB12A (io), P8 PB15A (io), R1 PB3B (io), R2 PB6A/DQS (io), R3 PB7A (io), R4 PB2A (io), R5 PB8B/VREF2_5 (io), R6 PB11B (io), R7 PB14A/DQS (io), R8 PB16A (io), T2 PB6B (io), T3 PB7B (io), T4 PB8A (io), T5 PB10A (io), T6 PB11A (io), T7 PB14B (io), T8 PB15B (io), T9 PB16B (io)
part G pins: J4 PL15B (io), J5 PL22A/VREF1_6 (io), K1 PL17A/PCLKT6_0 (io), K2 PL17B/PCLKC6_0 (io), K3 PL19A (io), K4 PL20A (io), K5 PL20B (io), L1 PL16A (io), L2 PL16B (io), L3 PL19B (io), L4 PL21A (io), L5 PL25A (io), M1 PL18A (io), M2 PL18B (io), M3 PL26A (io), M6 PL25B (io), N1 PL23B/VREF2_6 (io), N2 PL21B (io), N3 PL26B (io), P1 PL24A/DQS (io), P2 PL24B (io)
part H pins: D1 PL2A (io), D2 PL3A/LUM0_PLLT_FB_A (io), D3 PL3B/LUM0_PLLC_FB_A (io), E1 PL7A/DQS (io), E2 PL5A/VREF1_7 (io), E3 PL12A (io), F1 PL7B (io), F2 PL4B (io), F3 PL4A (io), F4 PL12B (io), G1 PL2B (io), G2 PL8B/LUM0_PLLC_IN_A (io), G3 PL8A/LUM0_PLLT_IN_A (io), G4 PL6B/VREF2_7 (io), G5 PL14A (io), H1 PL9A (io), H2 PL9B (io), H3 PL13A (io), J1 PL11A (io), J2 PL11B (io), J3 PL13B (io)
part I pins: B4 CFG1 (in), B14 TCK (in), C1 CCLK (io), C2 PROGRAMN (in), C3 DONE (in), C4 CFG0 (in), C14 TMS (in), D14 TDI (in), E16 TDO (out), P3 INITN (io), P4 TOE (in)
part J pins: D4 VCC (power), D13 VCC (power), D16 VCCJ (power), E4 VCCAUX (power), E5 VCC (power), E12 VCC (power), E13 VCCAUX (power), F7 VCCIO0 (power), F8 VCCIO0 (power), F9 VCCIO1 (power), F10 VCCIO1 (power), G6 VCCIO7 (power), G11 VCCIO2 (power), H4 VCCP0 (power), H6 VCCIO7 (power), H11 VCCIO2 (power), J6 VCCIO6 (power), J11 VCCIO3 (power), J12 VCCP1 (power), K6 VCCIO6 (power), K11 VCCIO3 (power), L7 VCCIO5 (power), L8 VCCIO5 (power), L9 VCCIO4 (power), L10 VCCIO4 (power), M4 VCCAUX (power), M5 VCC (power), M12 VCC (power), M13 VCCAUX (power), N4 VCC (power), N13 VCC (power)
part K pins: A1 GND (power), A16 GND (power), F6 GND (power), F11 GND (power), G7 GND (power), G8 GND (power), G9 GND (power), G10 GND (power), H5 GNDP0 (power), H7 GND (power), H8 GND (power), H9 GND (power), H10 GND (power), J7 GND (power), J8 GND (power), J9 GND (power), J10 GND (power), J13 GNDP1 (power), K7 GND (power), K8 GND (power), K9 GND (power), K10 GND (power), L6 GND (power), L11 GND (power), T1 GND (power), T16 GND (power)
part A text: BANK 0
part B text: BANK 1
part C text: BANK 2
part D text: BANK 3
part E text: BANK 4
part F text: BANK 5
part G text: BANK 6
part H text: BANK 7

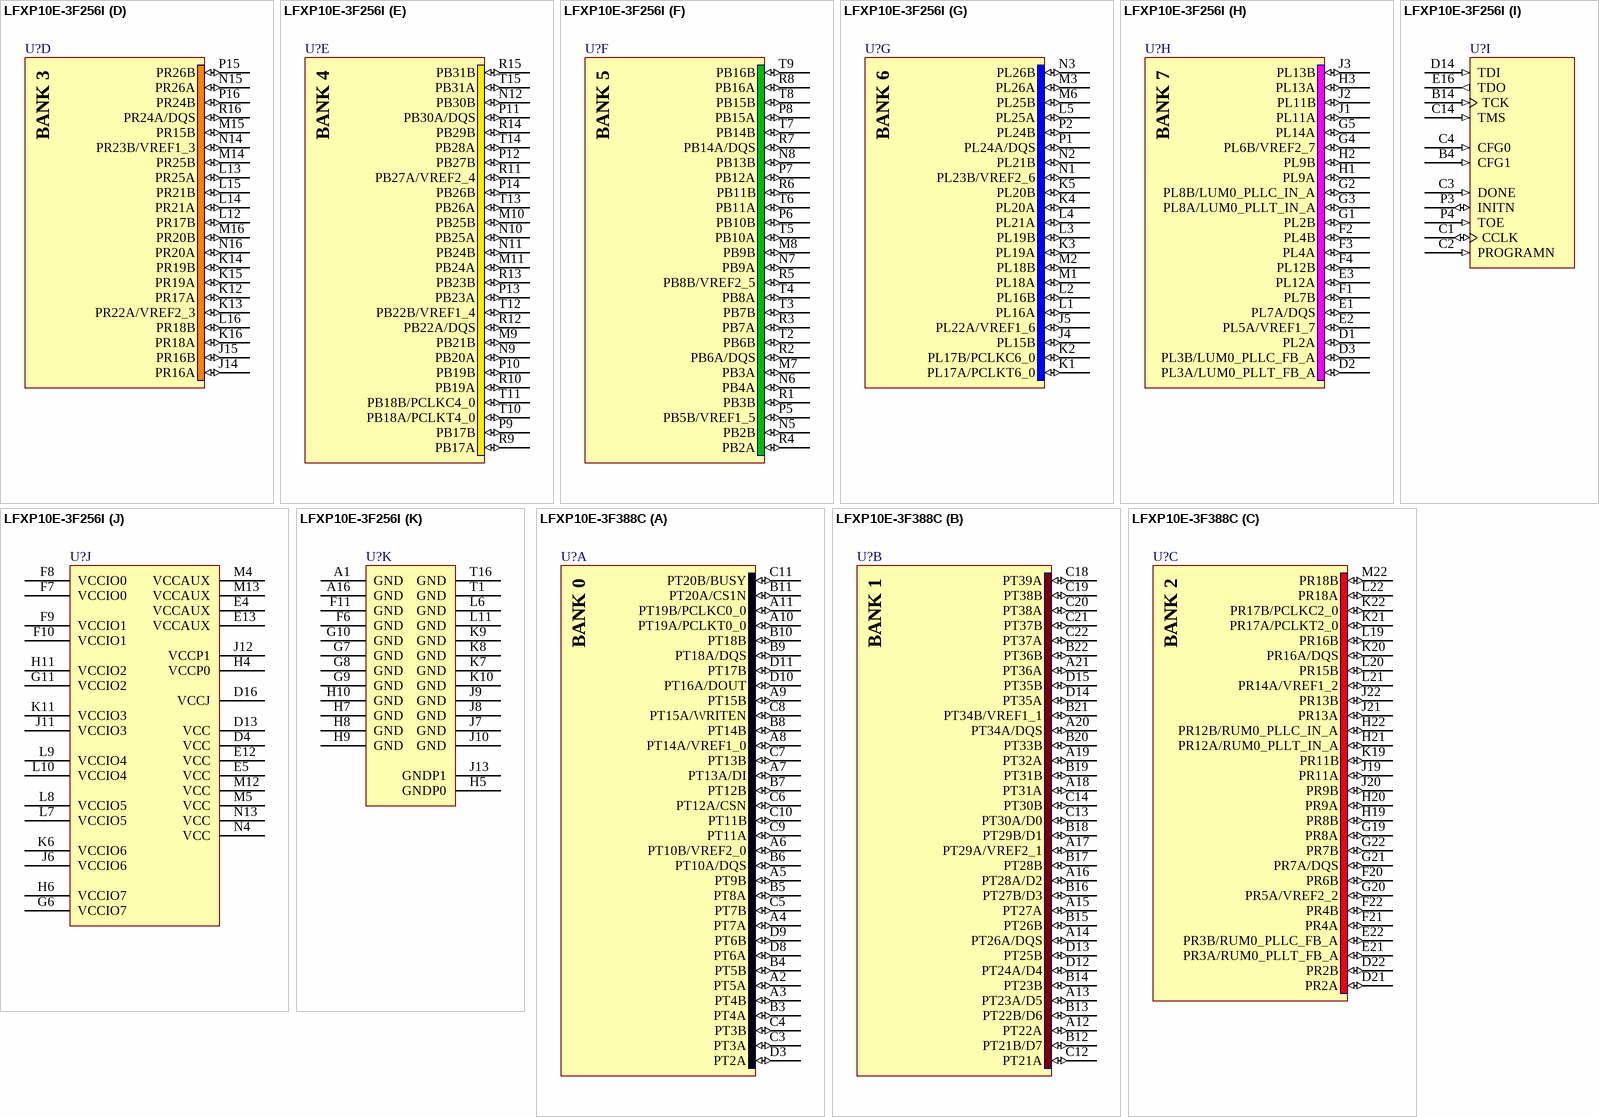
[diagram p93: symbols LFXP10E-3F256I to LFXP10E-3F388C]